# Altium integrated library SignalCommunications.IntLib: 804 symbols (part 2 of 10)
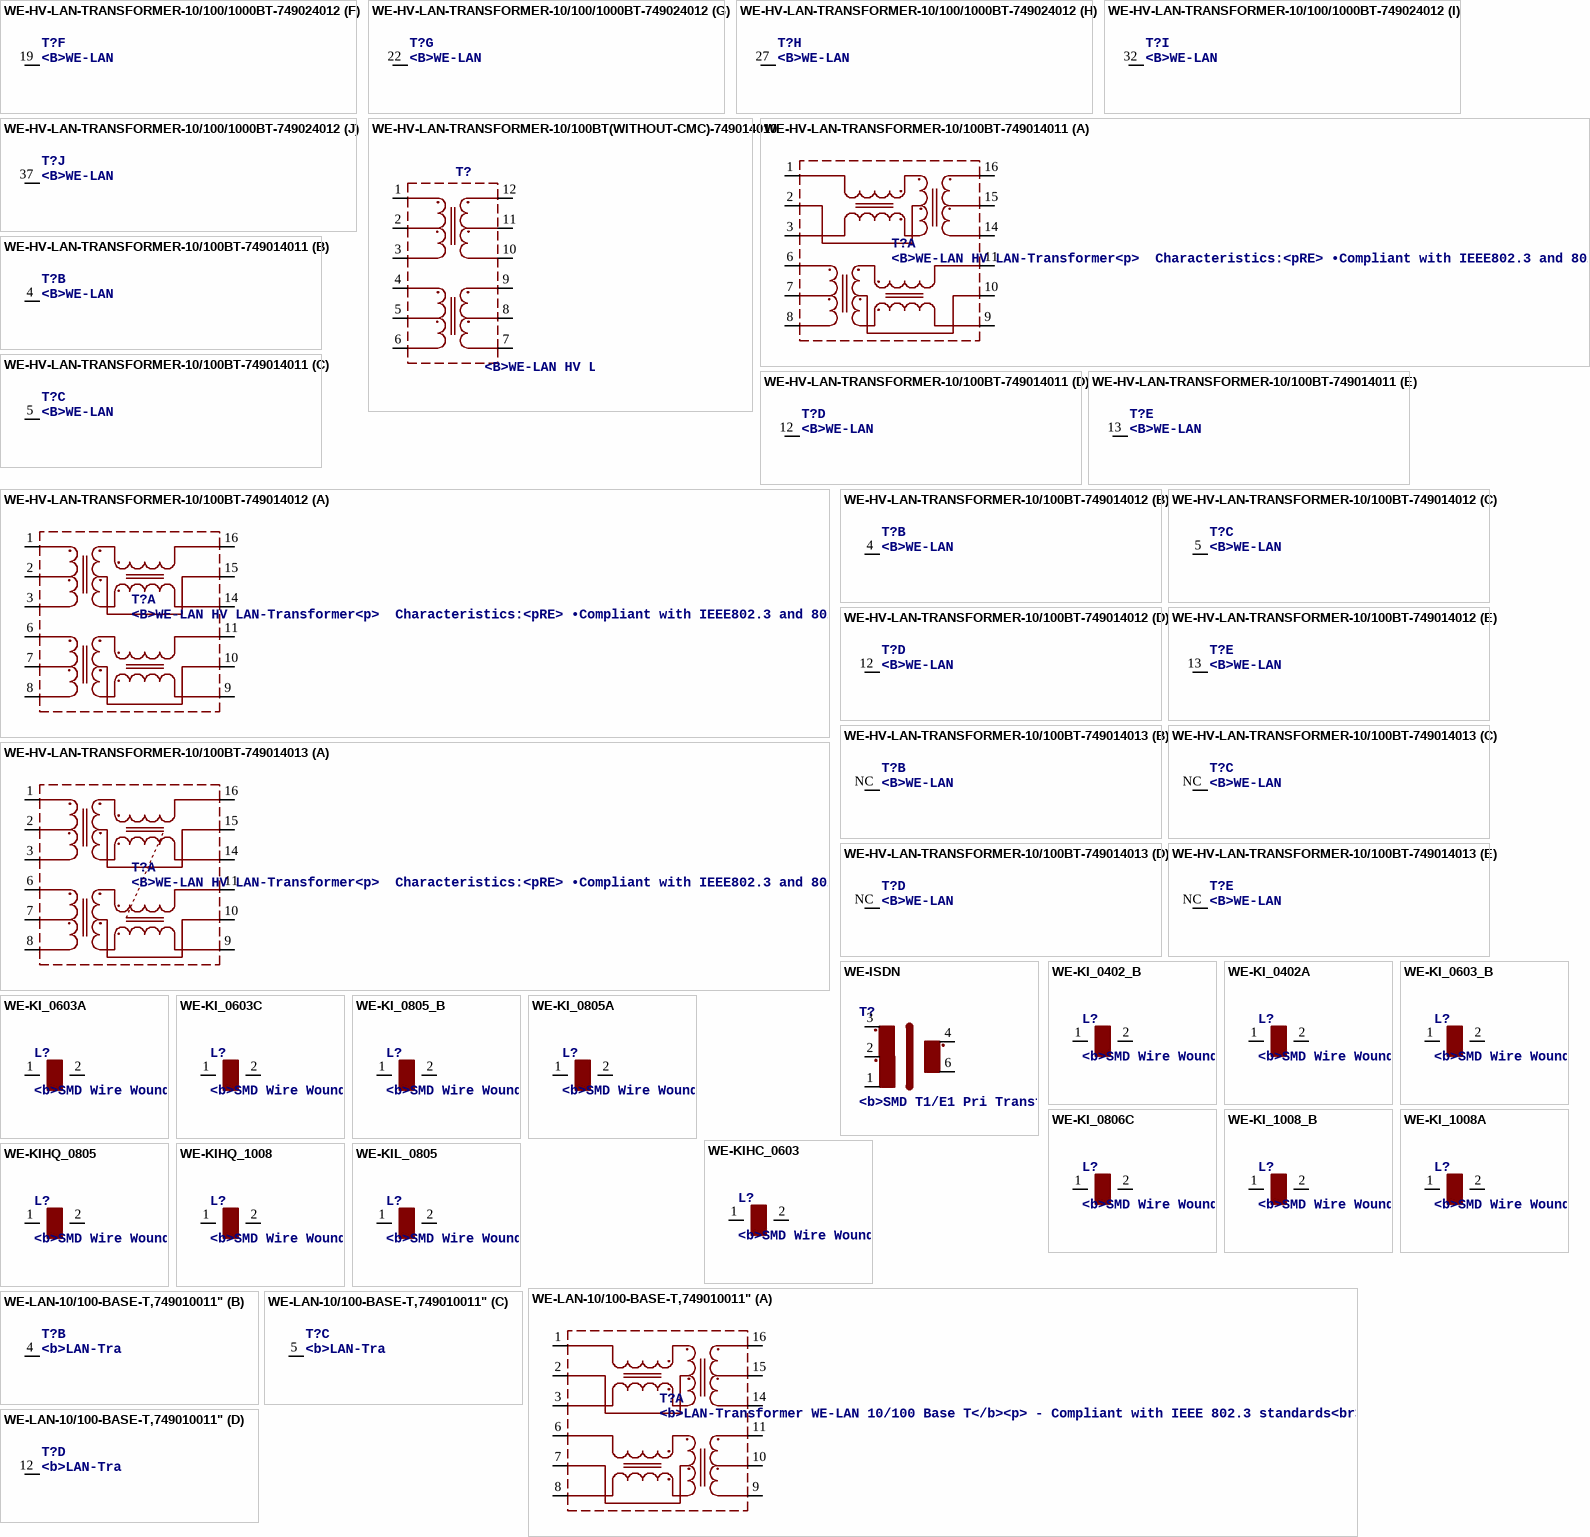
[diagram p43: symbols WE-HV-LAN-TRANSFORMER-10/100/1000BT-749024012 to WE-LAN-10/100-BASE-T,749010011"]

## WE-HV-LAN-TRANSFORMER-10/100/1000BT-749024012
designator T?, comment <B>WE-LAN HV LAN-Transformer<p> / Characteristics:<pRE> / •Compliant with IEEE802.3 and 802.3af standards / •Operating temperature: 0 °C to +70 °C / •SMD / •4 kV Hipot test<PRE> / <B>Applications:<PRE> / •Ethernet / •Compliant with most IC's for Ethernet applications / like Intel, AMD, Conexant, Realtek, etc. / •Hub, Router, Switches, medical applications
MANUFACTURER: Würth Elektronik eiSos GmbH; CREATED-BY: Christin Zierenner; COMPANY-URL: http://www.we-online.de; CREATED-DATE: July 2012; DATASHEET-URL: http://katalog.we-online.de/kataloge/eisos/media/pdf/749024012.pdf
footprint 749024012
part A pins: 1 D+, 2 TD, 3 D-, 6 D1+, 7 TD1, 8 D1-, 33 X1-, 34 TX1, 35 X1+, 38 X-, 39 TX, 40 X+
part B pins: 11 D+, 12 TD, 13 D-, 16 D1+, 17 TD1, 18 D1-, 23 X1-, 24 TX1, 25 X1+, 28 X-, 29 TX, 30 X+
part C pins: 4 NC
part D pins: 9 NC
part E pins: 14 NC
part F pins: 19 NC
part G pins: 22 NC
part H pins: 27 NC
part I pins: 32 NC
part J pins: 37 NC

## WE-HV-LAN-TRANSFORMER-10/100BT(WITHOUT-CMC)-749014010
designator T?, comment <B>WE-LAN HV LAN-Transformer<p> / Characteristics:<pRE> / •Compliant with IEEE802.3 and 802.3af standards / •Operating temperature: 0 °C to +70 °C / •SMD / •4 kV Hipot test<PRE> / <B>Applications:<PRE> / •Ethernet / •Compliant with most IC's for Ethernet applications / like Intel, AMD, Conexant, Realtek, etc. / •Hub, Router, Switches, medical applications
MANUFACTURER: Würth Elektronik eiSos GmbH; CREATED-BY: Christin Zierenner; COMPANY-URL: http://www.we-online.de; CREATED-DATE: July 2012; DATASHEET-URL: http://katalog.we-online.de/kataloge/eisos/media/pdf/749014010.pdf
footprint 749014010
pins: 1 D+, 2 TD, 3 D-, 4 D1+, 5 TD1, 6 D1-, 7 X1-, 8 TX1, 9 X1+, 10 X-, 11 TX, 12 X+

## WE-HV-LAN-TRANSFORMER-10/100BT-749014011
designator T?, comment <B>WE-LAN HV LAN-Transformer<p> / Characteristics:<pRE> / •Compliant with IEEE802.3 and 802.3af standards / •Operating temperature: 0 °C to +70 °C / •SMD / •4 kV Hipot test<PRE> / <B>Applications:<PRE> / •Ethernet / •Compliant with most IC's for Ethernet applications / like Intel, AMD, Conexant, Realtek, etc. / •Hub, Router, Switches, medical applications
MANUFACTURER: Würth Elektronik eiSos GmbH; CREATED-BY: Christin Zierenner; COMPANY-URL: http://www.we-online.de; CREATED-DATE: July 2012; DATASHEET-URL: http://katalog.we-online.de/kataloge/eisos/media/pdf/749014011.pdf
footprint 74901401X
part A pins: 1 RD+, 2 CRD, 3 RD-, 6 TD+, 7 CTD, 8 TD-, 9 TX-, 10 CTX, 11 TX+, 14 RX-, 15 CRX, 16 RX+
part B pins: 4 NC
part C pins: 5 NC
part D pins: 12 NC
part E pins: 13 NC

## WE-HV-LAN-TRANSFORMER-10/100BT-749014012
designator T?, comment <B>WE-LAN HV LAN-Transformer<p> / Characteristics:<pRE> / •Compliant with IEEE802.3 and 802.3af standards / •Operating temperature: 0 °C to +70 °C / •SMD / •6 kV Hipot test<PRE> / <B>Applications:<PRE> / •Ethernet / •Compliant with most IC's for Ethernet applications / like Intel, AMD, Conexant, Realtek, etc. / •Hub, Router, Switches, medical applications
MANUFACTURER: Würth Elektronik eiSos GmbH; CREATED-BY: Christin Zierenner; COMPANY-URL: http://www.we-online.de; CREATED-DATE: July 2012; DATASHEET-URL: http://katalog.we-online.de/kataloge/eisos/media/pdf/749014012.pdf
footprint 74901401X
part A pins: 1 RD+, 2 CRD, 3 RD-, 6 TD+, 7 CTD, 8 TD-, 9 TX-, 10 CTX, 11 TX+, 14 RX-, 15 CRX, 16 RX+
part B pins: 4 NC
part C pins: 5 NC
part D pins: 12 NC
part E pins: 13 NC

## WE-HV-LAN-TRANSFORMER-10/100BT-749014013
designator T?, comment <B>WE-LAN HV LAN-Transformer<p> / Characteristics:<pRE> / •Compliant with IEEE802.3 and 802.3af standards / •Operating temperature: 0 °C to +70 °C / •SMD / •4 kV Hipot test<PRE> / <B>Applications:<PRE> / •Ethernet / •Compliant with most IC's for Ethernet applications / like Intel, AMD, Conexant, Realtek, etc. / •Hub, Router, Switches, medical applications
MANUFACTURER: Würth Elektronik eiSos GmbH; CREATED-BY: Christin Zierenner; COMPANY-URL: http://www.we-online.de; CREATED-DATE: July 2012; DATASHEET-URL: http://katalog.we-online.de/kataloge/eisos/media/pdf/749014013.pdf
footprint 74901401X
part A pins: 1 RD+, 2 CRD, 3 RD-, 6 TD+, 7 CTD, 8 TD-, 9 TX-, 10 CTX, 11 TX+, 14 RX-, 15 CRX, 16 RX+
part B pins: NC
part C pins: NC
part D pins: NC
part E pins: NC

## WE-ISDN
designator T?, comment <b>SMD T1/E1 Pri Transformer WE-ISDN</b><p> / - Small surface mount package<br> / - Separate transit and receive devices for layout flexibility<br> / - Low cross talk: excellent layout density<br> / - Meets ITU G. 703 ISDN-Primary rate recommendations<br> / - 1500 VAC dielectric strength<br> / - 100 Ohm line<br><br> / -- ISDN<br> / -- Matched to IC manufacturers transceivers
footprint WE-ISDN
pins: 1, 2, 3, 4, 6

## WE-KI_0402_B
designator L?, comment <b>SMD Wire Wound Ceramic Inductor WE-KI</b><br><br> / - Wire wound<br> / - High thermal stability<br> / - Rated current up to 1 A<br> / - High Q-factor<br> / - High SRF<br> / - Inductance tolerances: 5% (2% upon request)<br><br> / -- Especially developed for high frequency applications<br> / -- Perfect for applications in telecommunications<br> / -- Bluetooth<br> / -- Wireless LAN
footprint WE-KI_0402_B
pins: 1, 2

## WE-KI_0402A
designator L?, comment <b>SMD Wire Wound Ceramic Inductor WE-KI</b><br><br> / - Wire wound<br> / - High thermal stability<br> / - Rated current up to 1 A<br> / - High Q-factor<br> / - High SRF<br> / - Inductance tolerances: 5% (2% upon request)<br><br> / -- Especially developed for high frequency applications<br> / -- Perfect for applications in telecommunications<br> / -- Bluetooth<br> / -- Wireless LAN
footprint WE-KI_0402A
pins: 1, 2

## WE-KI_0603_B
designator L?, comment <b>SMD Wire Wound Ceramic Inductor WE-KI</b><br><br> / - Wire wound<br> / - High thermal stability<br> / - Rated current up to 1 A<br> / - High Q-factor<br> / - High SRF<br> / - Inductance tolerances: 5% (2% upon request)<br><br> / -- Especially developed for high frequency applications<br> / -- Perfect for applications in telecommunications<br> / -- Bluetooth<br> / -- Wireless LAN
footprint WE-KI_0603_B
pins: 1, 2

## WE-KI_0603A
designator L?, comment <b>SMD Wire Wound Ceramic Inductor WE-KI</b><br><br> / - Wire wound<br> / - High thermal stability<br> / - Rated current up to 1 A<br> / - High Q-factor<br> / - High SRF<br> / - Inductance tolerances: 5% (2% upon request)<br><br> / -- Especially developed for high frequency applications<br> / -- Perfect for applications in telecommunications<br> / -- Bluetooth<br> / -- Wireless LAN
footprint WE-KI_0603A
pins: 1, 2

## WE-KI_0603C
designator L?, comment <b>SMD Wire Wound Ceramic Inductor WE-KI</b><br><br> / - Wire wound<br> / - High thermal stability<br> / - Rated current up to 1 A<br> / - High Q-factor<br> / - High SRF<br> / - Inductance tolerances: 5% (2% upon request)<br><br> / -- Especially developed for high frequency applications<br> / -- Perfect for applications in telecommunications<br> / -- Bluetooth<br> / -- Wireless LAN
footprint WE-KI_0603C
pins: 1, 2

## WE-KI_0805_B
designator L?, comment <b>SMD Wire Wound Ceramic Inductor WE-KI</b><br><br> / - Wire wound<br> / - High thermal stability<br> / - Rated current up to 1 A<br> / - High Q-factor<br> / - High SRF<br> / - Inductance tolerances: 5% (2% upon request)<br><br> / -- Especially developed for high frequency applications<br> / -- Perfect for applications in telecommunications<br> / -- Bluetooth<br> / -- Wireless LAN
footprint WE-KI_0805_B
pins: 1, 2

## WE-KI_0805A
designator L?, comment <b>SMD Wire Wound Ceramic Inductor WE-KI</b><br><br> / - Wire wound<br> / - High thermal stability<br> / - Rated current up to 1 A<br> / - High Q-factor<br> / - High SRF<br> / - Inductance tolerances: 5% (2% upon request)<br><br> / -- Especially developed for high frequency applications<br> / -- Perfect for applications in telecommunications<br> / -- Bluetooth<br> / -- Wireless LAN
footprint WE-KI_0805A
pins: 1, 2

## WE-KI_0806C
designator L?, comment <b>SMD Wire Wound Ceramic Inductor WE-KI</b><br><br> / - Wire wound<br> / - High thermal stability<br> / - Rated current up to 1 A<br> / - High Q-factor<br> / - High SRF<br> / - Inductance tolerances: 5% (2% upon request)<br><br> / -- Especially developed for high frequency applications<br> / -- Perfect for applications in telecommunications<br> / -- Bluetooth<br> / -- Wireless LAN
footprint WE-KI_0805C
pins: 1, 2

## WE-KI_1008_B
designator L?, comment <b>SMD Wire Wound Ceramic Inductor WE-KI</b><br><br> / - Wire wound<br> / - High thermal stability<br> / - Rated current up to 1 A<br> / - High Q-factor<br> / - High SRF<br> / - Inductance tolerances: 5% (2% upon request)<br><br> / -- Especially developed for high frequency applications<br> / -- Perfect for applications in telecommunications<br> / -- Bluetooth<br> / -- Wireless LAN
footprint WE-KI_1008_B
pins: 1, 2

## WE-KI_1008A
designator L?, comment <b>SMD Wire Wound Ceramic Inductor WE-KI</b><br><br> / - Wire wound<br> / - High thermal stability<br> / - Rated current up to 1 A<br> / - High Q-factor<br> / - High SRF<br> / - Inductance tolerances: 5% (2% upon request)<br><br> / -- Especially developed for high frequency applications<br> / -- Perfect for applications in telecommunications<br> / -- Bluetooth<br> / -- Wireless LAN
footprint WE-KI_1008A
pins: 1, 2

## WE-KIHC_0603
designator L?, comment <b>SMD Wire Wound Ceramic Inductor WE-KIHC</b><br><br> / - High current up to 2400 mA<br> / - Very high Q values<br> / - High thermal stability<br> / - Very high SRF - up to 12,5 GHz<br><br> / -- Bluetooth<br> / -- Wireless LAN<br> / -- RF oscillation circuit<br> / -- IF impedance matching<br> / -- PA chokes
footprint WE-KI_0603_B
pins: 1, 2

## WE-KIHQ_0805
designator L?, comment <b>SMD Wire Wound Ceramic Inductor WE-KIHQ</b><br><br> / - High current<br> / - Highest Quality factor in size 0805 - up to 98<br> / - High thermal stability<br> / - High SRF<br><br> / -- Bluetooth<br> / -- Wireless LAN<br> / -- RF oscillation circuit<br> / -- IF impedance matching<br> / -- IG choke
footprint WE-KI_0805_B
pins: 1, 2

## WE-KIHQ_1008
designator L?, comment <b>SMD Wire Wound Ceramic Inductor WE-KIHQ</b><br><br> / - High current<br> / - Highest Quality factor in size 0805 - up to 98<br> / - High thermal stability<br> / - High SRF<br><br> / -- Bluetooth<br> / -- Wireless LAN<br> / -- RF oscillation circuit<br> / -- IF impedance matching<br> / -- IG choke
footprint WE-KI_1008_B
pins: 1, 2

## WE-KIL_0805
designator L?, comment <b>SMD Wire Wound Ceramic Inductor WE-KIL</b><br><br> / - Low profile<br> / - High Q values<br><br> / -- Bluetooth <br> / -- Wireless LAN<br> / -- RF oscillation circuit<br> / -- IF impedance matching
footprint WE-KI_0805_B
pins: 1, 2

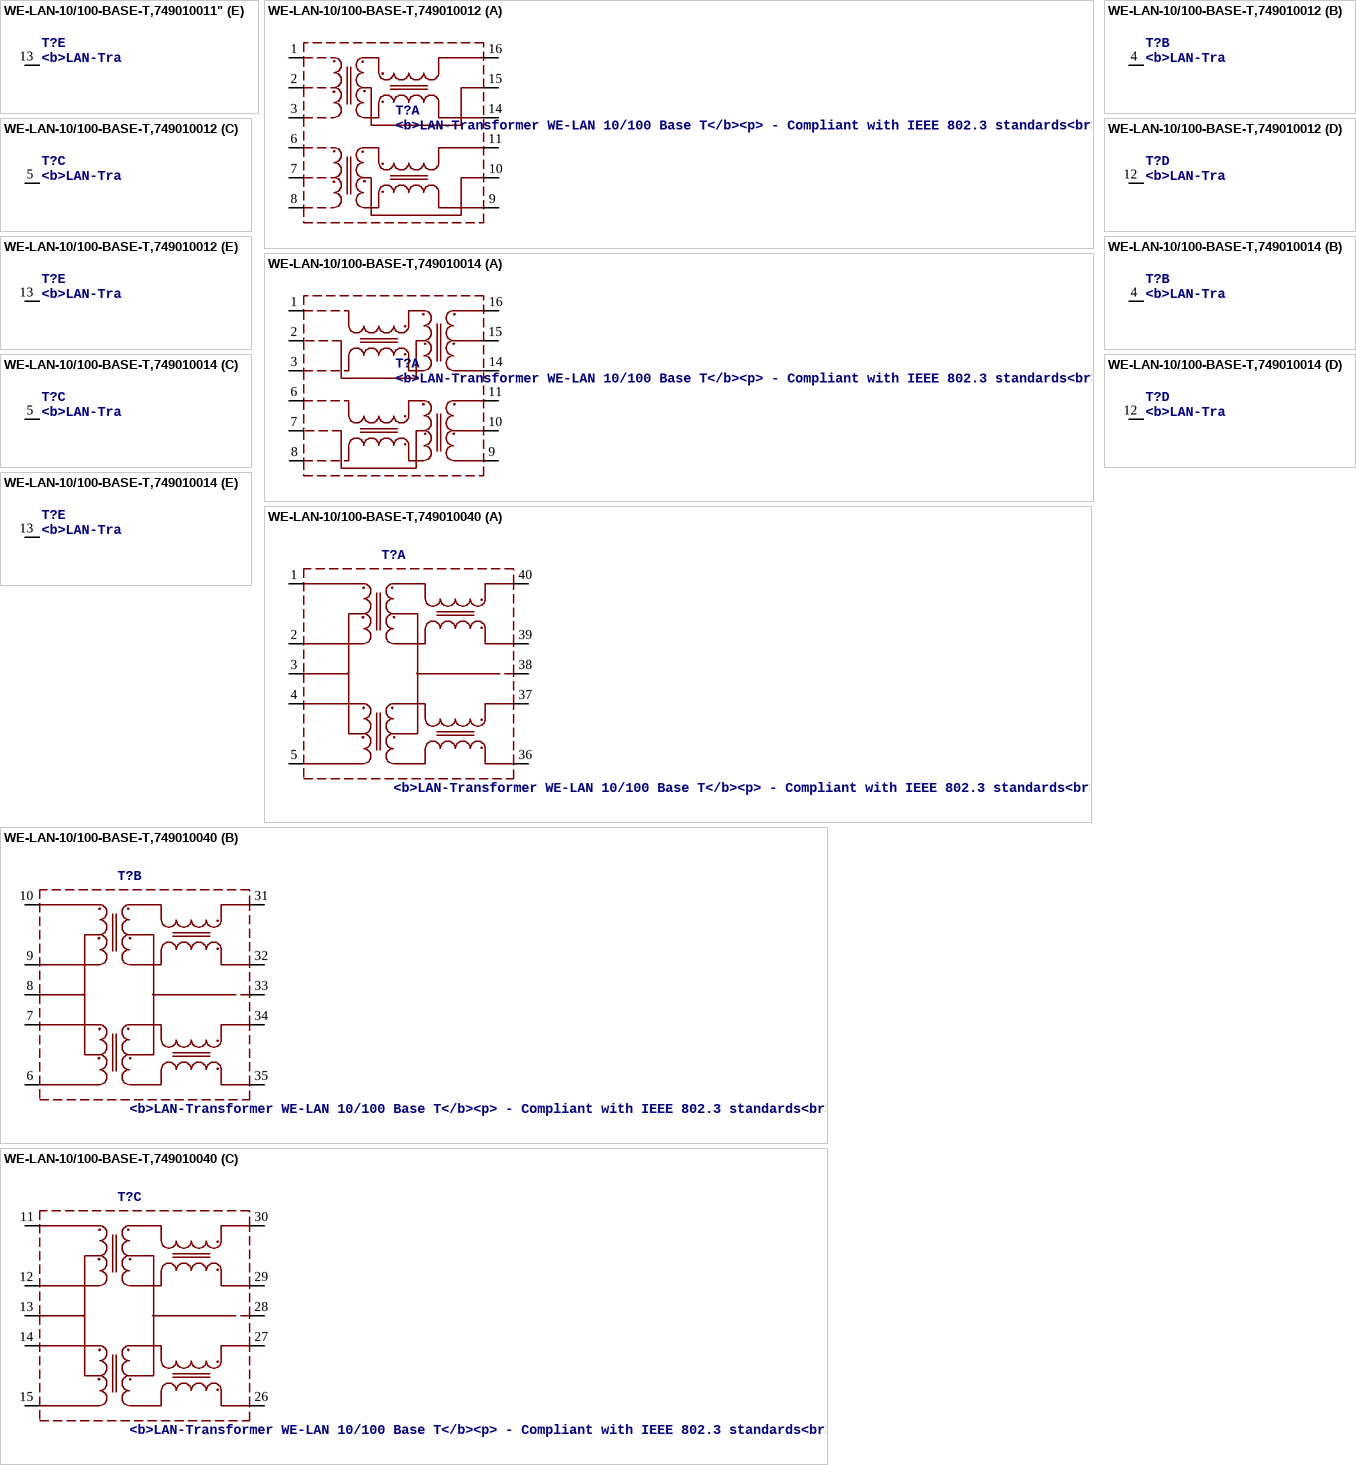
[diagram p4: symbols WE-LAN-10/100-BASE-T,749010011" to WE-LAN-10/100-BASE-T,749010040]

## WE-LAN-10/100-BASE-T,749010011"
designator T?, comment <b>LAN-Transformer WE-LAN 10/100 Base T</b><p> / - Compliant with IEEE 802.3 standards<br> / - SMD<p> / -- Ethernet<br> / -- Power over Ethernet<br> / -- 1 Gigabit Ethernet<br> / -- Compliant with most IC's for ethernet applications like Intel, AMD, Globespan and Realtek<br> / -- Hub, Router, Switch
MANUFACTURER: Würth Elektronik eiSos GmbH; CREATED-BY: Christin Zierenner; COMPANY-URL: http://www.we-online.de; CREATED-DATE: June 2012; DATASHEET-URL: http://katalog.we-online.de/kataloge/eisos/media/pdf/749010011.pdf
footprint 749010011
part A pins: 1 RD+, 2 RCT, 3 RD-, 6 TD+, 7 TCT, 8 TD-, 9 TX-, 10 TXCT, 11 TX+, 14 RX-, 15 RXCT, 16 RX+
part B pins: 4 NC
part C pins: 5 NC
part D pins: 12 NC
part E pins: 13 NC

## WE-LAN-10/100-BASE-T,749010012
designator T?, comment <b>LAN-Transformer WE-LAN 10/100 Base T</b><p> / - Compliant with IEEE 802.3 standards<br> / - SMD<p> / -- Ethernet<br> / -- Power over Ethernet<br> / -- 1 Gigabit Ethernet<br> / -- Compliant with most IC's for ethernet applications like Intel, AMD, Globespan and Realtek<br> / -- Hub, Router, Switch
MANUFACTURER: Würth Elektronik eiSos GmbH; CREATED-BY: Christin Zierenner; COMPANY-URL: http://www.we-online.de; CREATED-DATE: June 2012; DATASHEET-URL: http://katalog.we-online.de/kataloge/eisos/media/pdf/749010012.pdf
footprint 749010012
part A pins: 1 RD+, 2 RCT, 3 RD-, 6 TD+, 7 TCT, 8 TD-, 9 TX-, 10 TXCT, 11 TX+, 14 RX-, 15 RXCT, 16 RX+
part B pins: 4 NC
part C pins: 5 NC
part D pins: 12 NC
part E pins: 13 NC

## WE-LAN-10/100-BASE-T,749010014
designator T?, comment <b>LAN-Transformer WE-LAN 10/100 Base T</b><p> / - Compliant with IEEE 802.3 standards<br> / - SMD<p> / -- Ethernet<br> / -- Power over Ethernet<br> / -- 1 Gigabit Ethernet<br> / -- Compliant with most IC's for ethernet applications like Intel, AMD, Globespan and Realtek<br> / -- Hub, Router, Switch
MANUFACTURER: Würth Elektronik eiSos GmbH; CREATED-BY: Christin Zierenner; COMPANY-URL: http://www.we-online.de; CREATED-DATE: June 2012; DATASHEET-URL: http://katalog.we-online.de/kataloge/eisos/media/pdf/749010014.pdf
footprint 749010014
part A pins: 1 RX+, 2 CRX, 3 RX-, 6 TX+, 7 CTX, 8 TX-, 9 TD-, 10 CTD, 11 TD+, 14 RD-, 15 CRD, 16 RD+
part B pins: 4 NC
part C pins: 5 NC
part D pins: 12 NC
part E pins: 13 NC

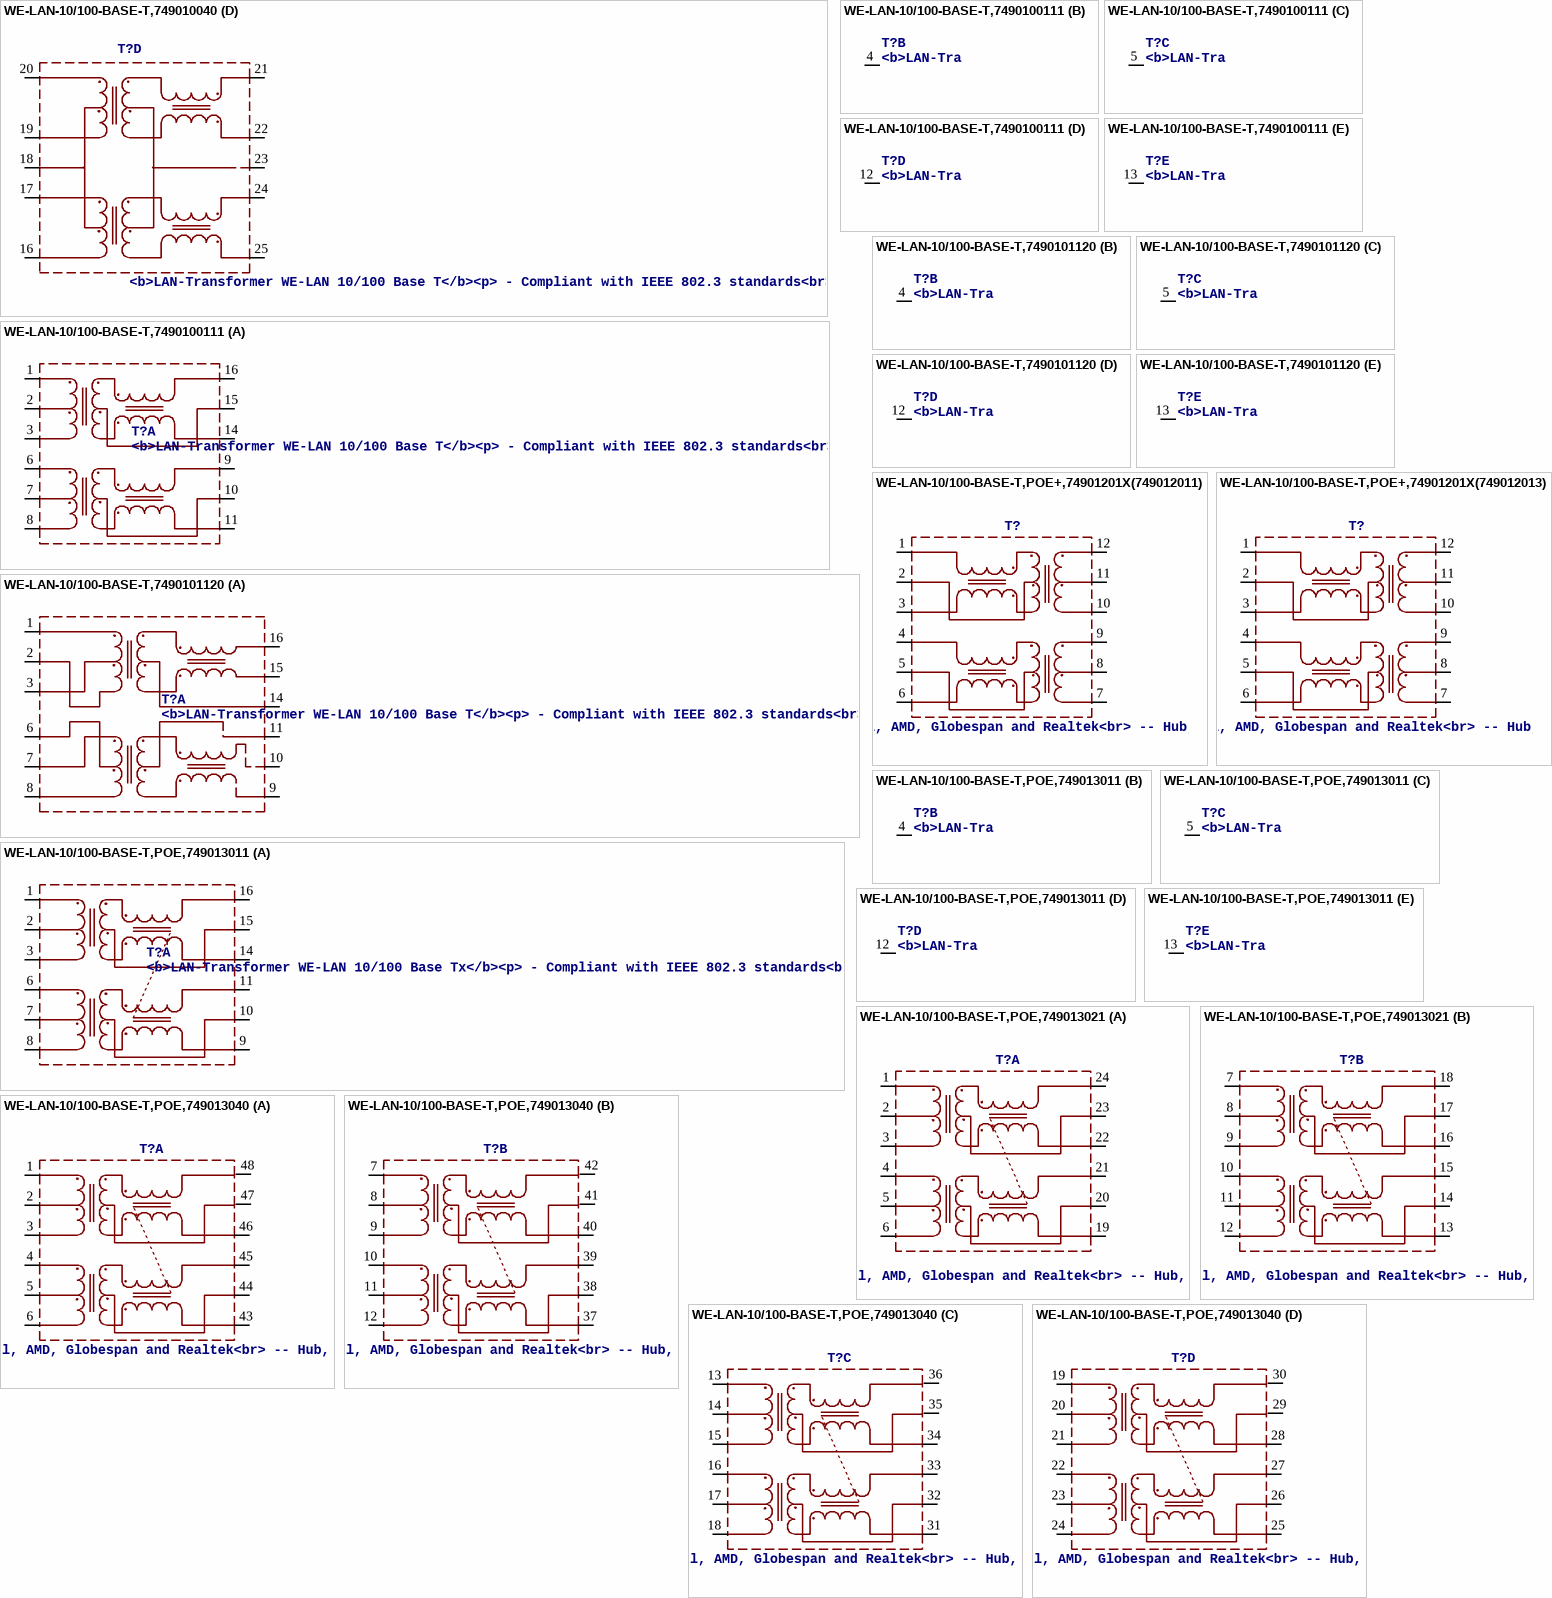
[diagram p5: symbols WE-LAN-10/100-BASE-T,749010040 to WE-LAN-10/100-BASE-T,POE,749013040]

## WE-LAN-10/100-BASE-T,749010040
designator T?, comment <b>LAN-Transformer WE-LAN 10/100 Base T</b><p> / - Compliant with IEEE 802.3 standards<br> / - SMD<p> / -- Ethernet<br> / -- Power over Ethernet<br> / -- 1 Gigabit Ethernet<br> / -- Compliant with most IC's for ethernet applications like Intel, AMD, Globespan and Realtek<br> / -- Hub, Router, Switch
MANUFACTURER: Würth Elektronik eiSos GmbH; CREATED-BY: Christin Zierenner; COMPANY-URL: http://www.we-online.de; CREATED-DATE: June 2012; DATASHEET-URL: http://katalog.we-online.de/kataloge/eisos/media/pdf/749010040.pdf
footprint 749010040
part A pins: 1 TD+, 2 TD-, 3 CTVDD, 4 RD+, 5 RD-, 36 RX-, 37 RX+, 38 CMGND, 39 TX-, 40 TX+
part B pins: 6 RD-, 7 RD+, 8 CTVDD, 9 TD-, 10 TD+, 31 TX+, 32 TX-, 33 CMGND, 34 RX+, 35 RX-
part C pins: 11 TD+, 12 TD-, 13 CTVDD, 14 RD+, 15 RD-, 26 RX-, 27 RX+, 28 CMGND, 29 TX-, 30 TX+
part D pins: 16 RD-, 17 RD+, 18 CTVDD, 19 TD-, 20 TD+, 21 TX+, 22 TX-, 23 CMGND, 24 RX+, 25 RX-

## WE-LAN-10/100-BASE-T,7490100111
designator T?, comment <b>LAN-Transformer WE-LAN 10/100 Base T</b><p> / - Compliant with IEEE 802.3 standards<br> / - SMD<p> / -- Ethernet<br> / -- Power over Ethernet<br> / -- 1 Gigabit Ethernet<br> / -- Compliant with most IC's for ethernet applications like Intel, AMD, Globespan and Realtek<br> / -- Hub, Router, Switch
MANUFACTURER: Würth Elektronik eiSos GmbH; CREATED-BY: Christin Zierenner; COMPANY-URL: http://www.we-online.de; CREATED-DATE: June 2012; DATASHEET-URL: http://katalog.we-online.de/kataloge/eisos/media/pdf/7490100111.pdf
footprint 7490100111
part A pins: 1 TD+, 2 CTD, 3 TD-, 6 RD+, 7 CRD, 8 RD-, 9 RX+, 10 CRX, 11 RX-, 14 TX-, 15 CTX, 16 TX+
part B pins: 4 NC
part C pins: 5 NC
part D pins: 12 NC
part E pins: 13 NC

## WE-LAN-10/100-BASE-T,7490101120
designator T?, comment <b>LAN-Transformer WE-LAN 10/100 Base T</b><p> / - Compliant with IEEE 802.3 standards<br> / - SMD<p> / -- Ethernet<br> / -- Power over Ethernet<br> / -- 1 Gigabit Ethernet<br> / -- Compliant with most IC's for ethernet applications like Intel, AMD, Globespan and Realtek<br> / -- Hub, Router, Switch
MANUFACTURER: Würth Elektronik eiSos GmbH; CREATED-BY: Christin Zierenner; COMPANY-URL: http://www.we-online.de; CREATED-DATE: June 2012; DATASHEET-URL: http://katalog.we-online.de/kataloge/eisos/media/pdf/7490101120.pdf
footprint 7490101120
part A pins: 1 RD+, 2 RD-, 3 CRD, 6 CTD, 7 TD+, 8 TD-, 9 TX-, 10 TX+, 11 CTX, 14 CRX, 15 RX-, 16 RX+
part B pins: 4 NC
part C pins: 5 NC
part D pins: 12 NC
part E pins: 13 NC

## WE-LAN-10/100-BASE-T,POE+,74901201X(749012011)
designator T?, comment <b>LAN-Transformer WE-LAN 10/100 Base Tx</b><p> / - Compliant with IEEE 802.3 standards<br> / - SMD<p> / -- Ethernet<br> / -- Power over Ethernet<br> / -- 1 Gigabit Ethernet<br> / -- Compliant with most IC's for ethernet applications like Intel, AMD, Globespan and Realtek<br> / -- Hub, Router, Switch
MANUFACTURER: Würth Elektronik eiSos GmbH; CREATED-BY: Christin Zierenner; COMPANY-URL: http://www.we-online.de; CREATED-DATE: June 2012; DATASHEET-URL: http://katalog.we-online.de/kataloge/eisos/media/pdf/749012011.pdf
footprint 74901201X
pins: 1 RD+, 2 CRD, 3 RD-, 4 TD+, 5 CTD, 6 TD-, 7 TX-, 8 CTX, 9 TX+, 10 RX-, 11 CRX, 12 RX+

## WE-LAN-10/100-BASE-T,POE+,74901201X(749012013)
designator T?, comment <b>LAN-Transformer WE-LAN 10/100 Base Tx</b><p> / - Compliant with IEEE 802.3 standards<br> / - SMD<p> / -- Ethernet<br> / -- Power over Ethernet<br> / -- 1 Gigabit Ethernet<br> / -- Compliant with most IC's for ethernet applications like Intel, AMD, Globespan and Realtek<br> / -- Hub, Router, Switch
MANUFACTURER: Würth Elektronik eiSos GmbH; CREATED-BY: Christin Zierenner; COMPANY-URL: http://www.we-online.de; CREATED-DATE: June 2012; DATASHEET-URL: http://katalog.we-online.de/kataloge/eisos/media/pdf/749012013.pdf
footprint 74901201X
pins: 1 RD+, 2 CRD, 3 RD-, 4 TD+, 5 CTD, 6 TD-, 7 TX-, 8 CTX, 9 TX+, 10 RX-, 11 CRX, 12 RX+

## WE-LAN-10/100-BASE-T,POE,749013011
designator T?, comment <b>LAN-Transformer WE-LAN 10/100 Base Tx</b><p> / - Compliant with IEEE 802.3 standards<br> / - SMD<p> / -- Ethernet<br> / -- Power over Ethernet<br> / -- 1 Gigabit Ethernet<br> / -- Compliant with most IC's for ethernet applications like Intel, AMD, Globespan and Realtek<br> / -- Hub, Router, Switch
MANUFACTURER: Würth Elektronik eiSos GmbH; CREATED-BY: Christin Zierenner; COMPANY-URL: http://www.we-online.de; CREATED-DATE: June 2012; DATASHEET-URL: http://katalog.we-online.de/kataloge/eisos/media/pdf/749013011.pdf
footprint 749013011
part A pins: 1 TD+, 2 CTD, 3 TD-, 6 RD+, 7 CRD, 8 RD-, 9 RX-, 10 CRX, 11 RX+, 14 TX-, 15 CTX, 16 TX+
part B pins: 4 NC
part C pins: 5 NC
part D pins: 12 NC
part E pins: 13 NC

## WE-LAN-10/100-BASE-T,POE,749013021
designator T?, comment <b>LAN-Transformer WE-LAN 10/100 Base Tx</b><p> / - Compliant with IEEE 802.3 standards<br> / - SMD<p> / -- Ethernet<br> / -- Power over Ethernet<br> / -- 1 Gigabit Ethernet<br> / -- Compliant with most IC's for ethernet applications like Intel, AMD, Globespan and Realtek<br> / -- Hub, Router, Switch
MANUFACTURER: Würth Elektronik eiSos GmbH; CREATED-BY: Christin Zierenner; COMPANY-URL: http://www.we-online.de; CREATED-DATE: June 2012; DATASHEET-URL: http://katalog.we-online.de/kataloge/eisos/media/pdf/749013021.pdf
footprint 749013021
part A pins: 1 RD1+, 2 RCT1, 3 RD1-, 4 TD1+, 5 TCT1, 6 TD1-, 19 TX1-, 20 TXCT1, 21 TX1+, 22 RX1-, 23 RXCT1, 24 RX1+
part B pins: 7 RD1+, 8 RCT1, 9 RD1-, 10 TD1+, 11 TCT1, 12 TD1-, 13 TX1-, 14 TXCT1, 15 TX1+, 16 RX1-, 17 RXCT1, 18 RX1+

## WE-LAN-10/100-BASE-T,POE,749013040
designator T?, comment <b>LAN-Transformer WE-LAN 10/100 Base Tx</b><p> / - Compliant with IEEE 802.3 standards<br> / - SMD<p> / -- Ethernet<br> / -- Power over Ethernet<br> / -- 1 Gigabit Ethernet<br> / -- Compliant with most IC's for ethernet applications like Intel, AMD, Globespan and Realtek<br> / -- Hub, Router, Switch
MANUFACTURER: Würth Elektronik eiSos GmbH; CREATED-BY: Christin Zierenner; COMPANY-URL: http://www.we-online.de; CREATED-DATE: June 2012; DATASHEET-URL: http://katalog.we-online.de/kataloge/eisos/media/pdf/749013040.pdf
footprint 749013040
part A pins: 1 RD1+, 2 RCT1, 3 RD1-, 4 TD1+, 5 TCT1, 6 TD1-, 43 TX1-, 44 CMT1, 45 TX1+, 46 RX1-, 47 CMR1, 48 RX1+
part B pins: 7 RD1+, 8 RCT1, 9 RD1-, 10 TD1+, 11 TCT1, 12 TD1-, 37 TX1-, 38 CMT1, 39 TX1+, 40 RX1-, 41 CMR1, 42 RX1+
part C pins: 13 RD1+, 14 RCT1, 15 RD1-, 16 TD1+, 17 TCT1, 18 TD1-, 31 TX1-, 32 CMT1, 33 TX1+, 34 RX1-, 35 CMR1, 36 RX1+
part D pins: 19 RD1+, 20 RCT1, 21 RD1-, 22 TD1+, 23 TCT1, 24 TD1-, 25 TX1-, 26 CMT1, 27 TX1+, 28 RX1-, 29 CMR1, 30 RX1+

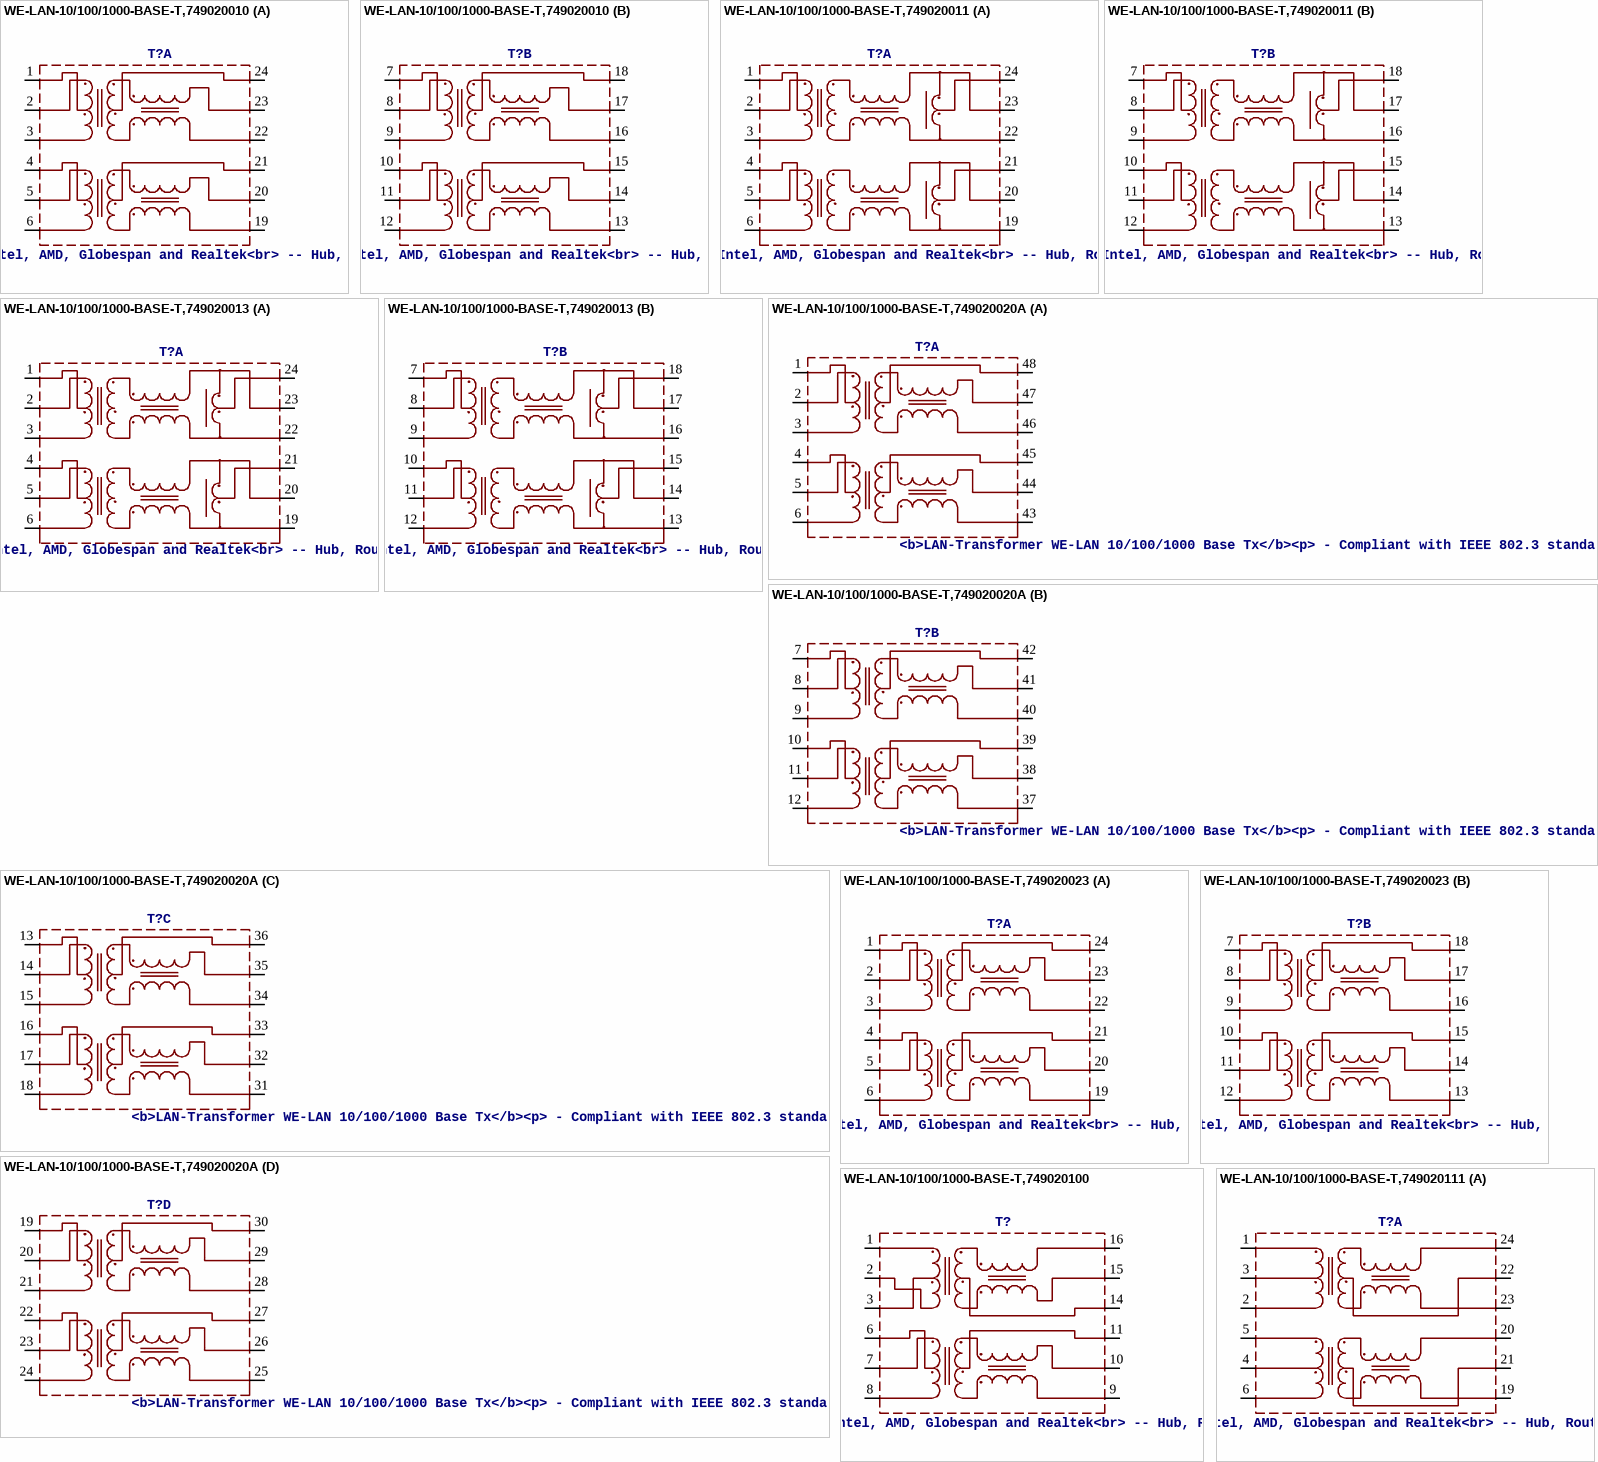
[diagram p6: symbols WE-LAN-10/100/1000-BASE-T,749020010 to WE-LAN-10/100/1000-BASE-T,749020111]

## WE-LAN-10/100/1000-BASE-T,749020010
designator T?, comment <b>LAN-Transformer WE-LAN 10/100/1000 Base Tx</b><p> / - Compliant with IEEE 802.3 standards<br> / - SMD<p> / -- Ethernet<br> / -- Power over Ethernet<br> / -- 1 Gigabit Ethernet<br> / -- Compliant with most IC's for ethernet applications like Intel, AMD, Globespan and Realtek<br> / -- Hub, Router, Switch
MANUFACTURER: Würth Elektronik eiSos GmbH; CREATED-BY: Christin Zierenner; COMPANY-URL: http://www.we-online.de; CREATED-DATE: June 2012; DATASHEET-URL: http://katalog.we-online.de/kataloge/eisos/media/pdf/749020010.pdf
footprint 749020010
part A pins: 1 TCT1, 2 TD1+, 3 TD1-, 4 TCT2, 5 TD2+, 6 TD2-, 19 MX2-, 20 MX2+, 21 MCT2, 22 MX1-, 23 MX1+, 24 MCT1
part B pins: 7 TCT1, 8 TD1+, 9 TD1-, 10 TCT2, 11 TD2+, 12 TD2-, 13 MX2-, 14 MX2+, 15 MCT2, 16 MX1-, 17 MX1+, 18 MCT1

## WE-LAN-10/100/1000-BASE-T,749020011
designator T?, comment <b>LAN-Transformer WE-LAN 10/100/1000 Base Tx</b><p> / - Compliant with IEEE 802.3 standards<br> / - SMD<p> / -- Ethernet<br> / -- Power over Ethernet<br> / -- 1 Gigabit Ethernet<br> / -- Compliant with most IC's for ethernet applications like Intel, AMD, Globespan and Realtek<br> / -- Hub, Router, Switch
MANUFACTURER: Würth Elektronik eiSos GmbH; CREATED-BY: Christin Zierenner; COMPANY-URL: http://www.we-online.de; CREATED-DATE: June 2012; DATASHEET-URL: http://katalog.we-online.de/kataloge/eisos/media/pdf/749020011.pdf
footprint 749020011
part A pins: 1 TCT1, 2 TD1+, 3 TD1-, 4 TCT2, 5 TD2+, 6 TD2-, 19 MX2-, 20 MX2+, 21 MCT2, 22 MX1-, 23 MX1+, 24 MCT1
part B pins: 7 TCT1, 8 TD1+, 9 TD1-, 10 TCT2, 11 TD2+, 12 TD2-, 13 MX2-, 14 MX2+, 15 MCT2, 16 MX1-, 17 MX1+, 18 MCT1

## WE-LAN-10/100/1000-BASE-T,749020013
designator T?, comment <b>LAN-Transformer WE-LAN 10/100/1000 Base Tx</b><p> / - Compliant with IEEE 802.3 standards<br> / - SMD<p> / -- Ethernet<br> / -- Power over Ethernet<br> / -- 1 Gigabit Ethernet<br> / -- Compliant with most IC's for ethernet applications like Intel, AMD, Globespan and Realtek<br> / -- Hub, Router, Switch
MANUFACTURER: Würth Elektronik eiSos GmbH; CREATED-BY: Christin Zierenner; COMPANY-URL: http://www.we-online.de; CREATED-DATE: June 2012; DATASHEET-URL: http://katalog.we-online.de/kataloge/eisos/media/pdf/749020013.pdf
footprint 749020013
part A pins: 1 TD1, 2 D1+, 3 D1-, 4 TD2, 5 D2+, 6 D2-, 19 X2-, 20 X2+, 21 TX2, 22 X1-, 23 X1+, 24 TX1
part B pins: 7 TD1, 8 D1+, 9 D1-, 10 TD2, 11 D2+, 12 D2-, 13 X2-, 14 X2+, 15 TX2, 16 X1-, 17 X1+, 18 TX1

## WE-LAN-10/100/1000-BASE-T,749020020A
designator T?, comment <b>LAN-Transformer WE-LAN 10/100/1000 Base Tx</b><p> / - Compliant with IEEE 802.3 standards<br> / - SMD<p> / -- Ethernet<br> / -- Power over Ethernet<br> / -- 1 Gigabit Ethernet<br> / -- Compliant with most IC's for ethernet applications like Intel, AMD, Globespan and Realtek<br> / -- Hub, Router, Switch
MANUFACTURER: Würth Elektronik eiSos GmbH; CREATED-BY: Christin Zierenner; COMPANY-URL: http://www.we-online.de; CREATED-DATE: June 2012; DATASHEET-URL: http://katalog.we-online.de/kataloge/eisos/media/pdf/749020020A.pdf
footprint 749020020A
part A pins: 1 TCT1, 2 TD1+, 3 TD1-, 4 TCT2, 5 TD2+, 6 TD2-, 43 MX2-, 44 MX2+, 45 MCT2, 46 MX1-, 47 MX1+, 48 MCT1
part B pins: 7 TCT1, 8 TD1+, 9 TD1-, 10 TCT2, 11 TD2+, 12 TD2-, 37 MX2-, 38 MX2+, 39 MCT2, 40 MX1-, 41 MX1+, 42 MCT1
part C pins: 13 TCT1, 14 TD1+, 15 TD1-, 16 TCT2, 17 TD2+, 18 TD2-, 31 MX2-, 32 MX2+, 33 MCT2, 34 MX1-, 35 MX1+, 36 MCT1
part D pins: 19 TCT1, 20 TD1+, 21 TD1-, 22 TCT2, 23 TD2+, 24 TD2-, 25 MX2-, 26 MX2+, 27 MCT2, 28 MX1-, 29 MX1+, 30 MCT1

## WE-LAN-10/100/1000-BASE-T,749020023
designator T?, comment <b>LAN-Transformer WE-LAN 10/100/1000 Base Tx</b><p> / - Compliant with IEEE 802.3 standards<br> / - SMD<p> / -- Ethernet<br> / -- Power over Ethernet<br> / -- 1 Gigabit Ethernet<br> / -- Compliant with most IC's for ethernet applications like Intel, AMD, Globespan and Realtek<br> / -- Hub, Router, Switch
MANUFACTURER: Würth Elektronik eiSos GmbH; CREATED-BY: Christin Zierenner; COMPANY-URL: http://www.we-online.de; CREATED-DATE: June 2012; DATASHEET-URL: http://katalog.we-online.de/kataloge/eisos/media/pdf/749020023.pdf
footprint 749020023
part A pins: 1 TCT1, 2 TD1+, 3 TD1-, 4 TCT2, 5 TD2+, 6 TD2-, 19 MX2-, 20 MX2+, 21 MCT2, 22 MX1-, 23 MX1+, 24 MCT1
part B pins: 7 TCT1, 8 TD1+, 9 TD1-, 10 TCT2, 11 TD2+, 12 TD2-, 13 MX2-, 14 MX2+, 15 MCT2, 16 MX1-, 17 MX1+, 18 MCT1

## WE-LAN-10/100/1000-BASE-T,749020100
designator T?, comment <b>LAN-Transformer WE-LAN 10/10/1000 Base Tx</b><p> / - Compliant with IEEE 802.3 standards<br> / - SMD<p> / -- Ethernet<br> / -- Power over Ethernet<br> / -- 1 Gigabit Ethernet<br> / -- Compliant with most IC's for ethernet applications like Intel, AMD, Globespan and Realtek<br> / -- Hub, Router, Switch
MANUFACTURER: Würth Elektronik eiSos GmbH; CREATED-BY: Christin Zierenner; COMPANY-URL: http://www.we-online.de; CREATED-DATE: June 2012; DATASHEET-URL: http://katalog.we-online.de/kataloge/eisos/media/pdf/749020100.pdf
footprint 749020100
pins: 1 D+, 2 D-, 3 TD1, 6 TD2, 7 D1+, 8 D1-, 9 X1-, 10 X1+, 11 TX1, 14 TX, 15 X-, 16 X+

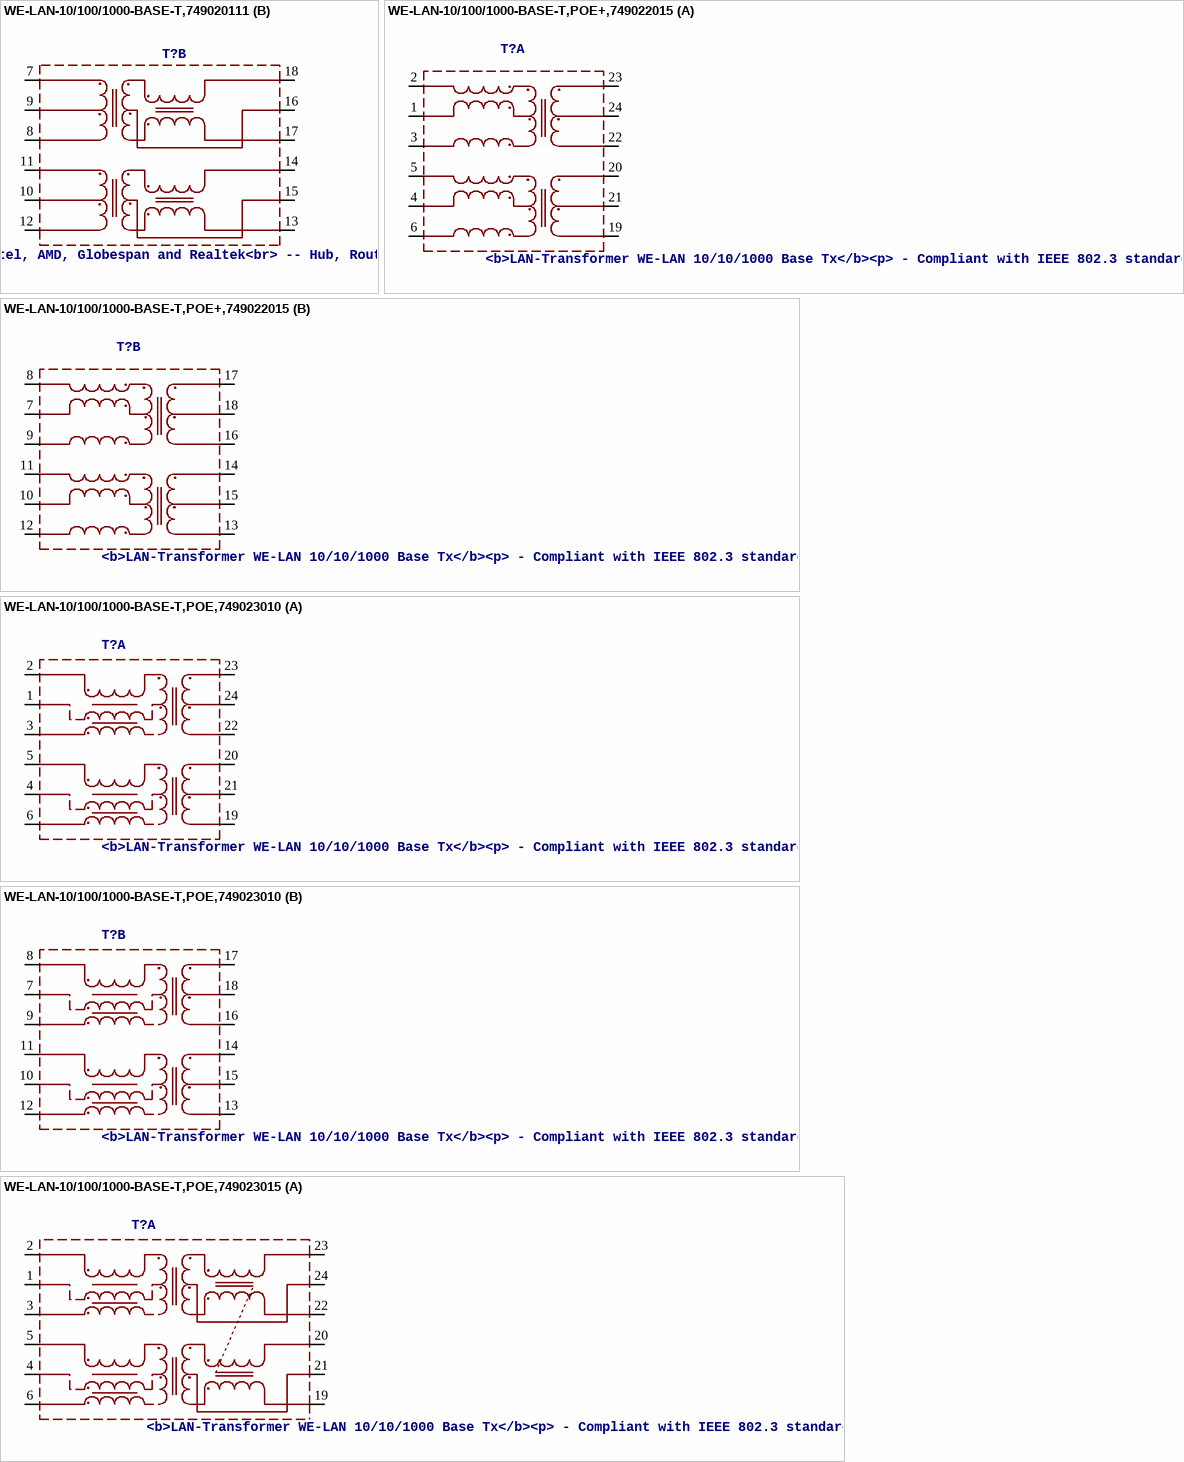
[diagram p7: symbols WE-LAN-10/100/1000-BASE-T,749020111 to WE-LAN-10/100/1000-BASE-T,POE,749023015]

## WE-LAN-10/100/1000-BASE-T,749020111
designator T?, comment <b>LAN-Transformer WE-LAN 10/10/1000 Base Tx</b><p> / - Compliant with IEEE 802.3 standards<br> / - SMD<p> / -- Ethernet<br> / -- Power over Ethernet<br> / -- 1 Gigabit Ethernet<br> / -- Compliant with most IC's for ethernet applications like Intel, AMD, Globespan and Realtek<br> / -- Hub, Router, Switch
MANUFACTURER: Würth Elektronik eiSos GmbH; CREATED-BY: Christin Zierenner; COMPANY-URL: http://www.we-online.de; CREATED-DATE: June 2012; DATASHEET-URL: http://katalog.we-online.de/kataloge/eisos/media/pdf/749020111.pdf
footprint 749020111
part A pins: 1 D1-, 2 D1A-, 3 TD1, 4 TD2, 5 D2-, 6 D2A-, 19 X2A-, 20 X2-, 21 TX2, 22 TX1, 23 X1A-, 24 X1-
part B pins: 7 D1-, 8 D1A-, 9 TD1, 10 TD2, 11 D2-, 12 D2A-, 13 X2A-, 14 X2-, 15 TX2, 16 TX1, 17 X1A-, 18 X1-

## WE-LAN-10/100/1000-BASE-T,POE+,749022015
designator T?, comment <b>LAN-Transformer WE-LAN 10/10/1000 Base Tx</b><p> / - Compliant with IEEE 802.3 standards<br> / - SMD<p> / -- Ethernet<br> / -- Power over Ethernet<br> / -- 1 Gigabit Ethernet<br> / -- Compliant with most IC's for ethernet applications like Intel, AMD, Globespan and Realtek<br> / -- Hub, Router, Switch
MANUFACTURER: Würth Elektronik eiSos GmbH; CREATED-BY: Christin Zierenner; COMPANY-URL: http://www.we-online.de; CREATED-DATE: June 2012; DATASHEET-URL: http://katalog.we-online.de/kataloge/eisos/media/pdf/749022015.pdf
footprint 749022015
part A pins: 1 TD1, 2 D1-, 3 D1A-, 4 TD2, 5 D2-, 6 D2A-, 19 X2A-, 20 X2-, 21 TX2, 22 X1A-, 23 X1-, 24 TX1
part B pins: 7 TD1, 8 D1-, 9 D1A-, 10 TD2, 11 D2-, 12 D2A-, 13 X2A-, 14 X2-, 15 TX2, 16 X1A-, 17 X1-, 18 TX1

## WE-LAN-10/100/1000-BASE-T,POE,749023010
designator T?, comment <b>LAN-Transformer WE-LAN 10/10/1000 Base Tx</b><p> / - Compliant with IEEE 802.3 standards<br> / - SMD<p> / -- Ethernet<br> / -- Power over Ethernet<br> / -- 1 Gigabit Ethernet<br> / -- Compliant with most IC's for ethernet applications like Intel, AMD, Globespan and Realtek<br> / -- Hub, Router, Switch
MANUFACTURER: Würth Elektronik eiSos GmbH; CREATED-BY: Christin Zierenner; COMPANY-URL: http://www.we-online.de; CREATED-DATE: June 2012; DATASHEET-URL: http://katalog.we-online.de/kataloge/eisos/media/pdf/749023010.pdf
footprint 749023010
part A pins: 1 TCT1, 2 TD1+, 3 TD1-, 4 TCT2, 5 TD2+, 6 TD2-, 19 MX2-, 20 MX2+, 21 MCT2, 22 MX1-, 23 MX1+, 24 MCT1
part B pins: 7 TCT1, 8 TD1+, 9 TD1-, 10 TCT2, 11 TD2+, 12 TD2-, 13 MX2-, 14 MX2+, 15 MCT2, 16 MX1-, 17 MX1+, 18 MCT1

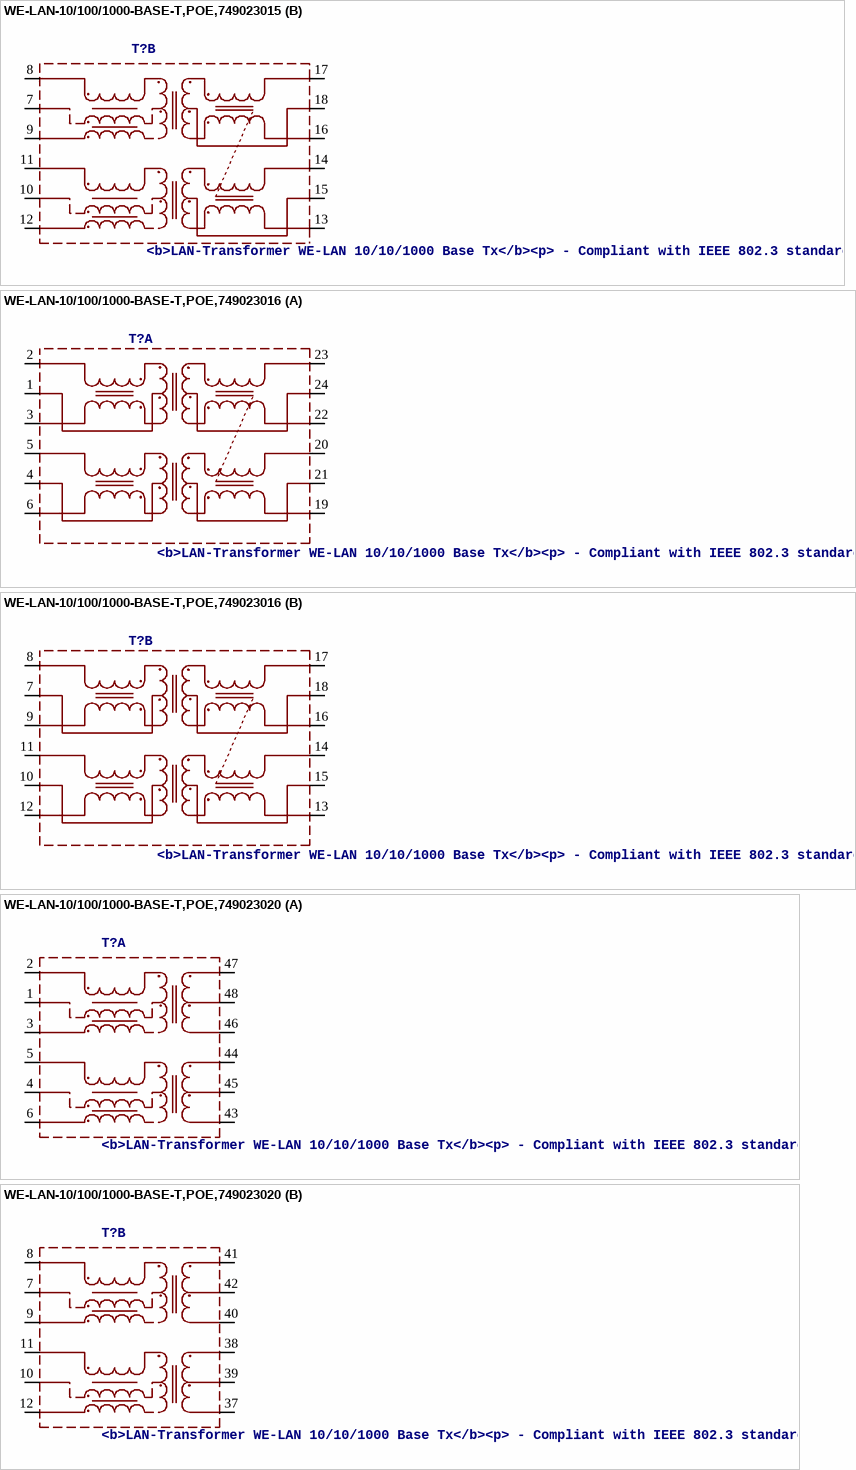
[diagram p8: symbols WE-LAN-10/100/1000-BASE-T,POE,749023015 to WE-LAN-10/100/1000-BASE-T,POE,749023020]

## WE-LAN-10/100/1000-BASE-T,POE,749023015
designator T?, comment <b>LAN-Transformer WE-LAN 10/10/1000 Base Tx</b><p> / - Compliant with IEEE 802.3 standards<br> / - SMD<p> / -- Ethernet<br> / -- Power over Ethernet<br> / -- 1 Gigabit Ethernet<br> / -- Compliant with most IC's for ethernet applications like Intel, AMD, Globespan and Realtek<br> / -- Hub, Router, Switch
MANUFACTURER: Würth Elektronik eiSos GmbH; CREATED-BY: Christin Zierenner; COMPANY-URL: http://www.we-online.de; CREATED-DATE: June 2012; DATASHEET-URL: http://katalog.we-online.de/kataloge/eisos/media/pdf/749023015.pdf
footprint 749023015
part A pins: 1 TD1, 2 D1+, 3 D1-, 4 TD2, 5 D2+, 6 D2-, 19 X2-, 20 X2+, 21 TX2, 22 X1-, 23 X1+, 24 TX1
part B pins: 7 TD1, 8 D1+, 9 D1-, 10 TD2, 11 D2+, 12 D2-, 13 X2-, 14 X2+, 15 TX2, 16 X1-, 17 X1+, 18 TX1

## WE-LAN-10/100/1000-BASE-T,POE,749023016
designator T?, comment <b>LAN-Transformer WE-LAN 10/10/1000 Base Tx</b><p> / - Compliant with IEEE 802.3 standards<br> / - SMD<p> / -- Ethernet<br> / -- Power over Ethernet<br> / -- 1 Gigabit Ethernet<br> / -- Compliant with most IC's for ethernet applications like Intel, AMD, Globespan and Realtek<br> / -- Hub, Router, Switch
MANUFACTURER: Würth Elektronik eiSos GmbH; CREATED-BY: Christin Zierenner; COMPANY-URL: http://www.we-online.de; CREATED-DATE: June 2012; DATASHEET-URL: http://katalog.we-online.de/kataloge/eisos/media/pdf/749023016.pdf
footprint 749023016
part A pins: 1 TD1, 2 D1+, 3 D1-, 4 TD2, 5 D2+, 6 D2-, 19 X2-, 20 X2+, 21 TX2, 22 X1-, 23 X1+, 24 TX1
part B pins: 7 TD1, 8 D1+, 9 D1-, 10 TD2, 11 D2+, 12 D2-, 13 X2-, 14 X2+, 15 TX2, 16 X1-, 17 X1+, 18 TX1

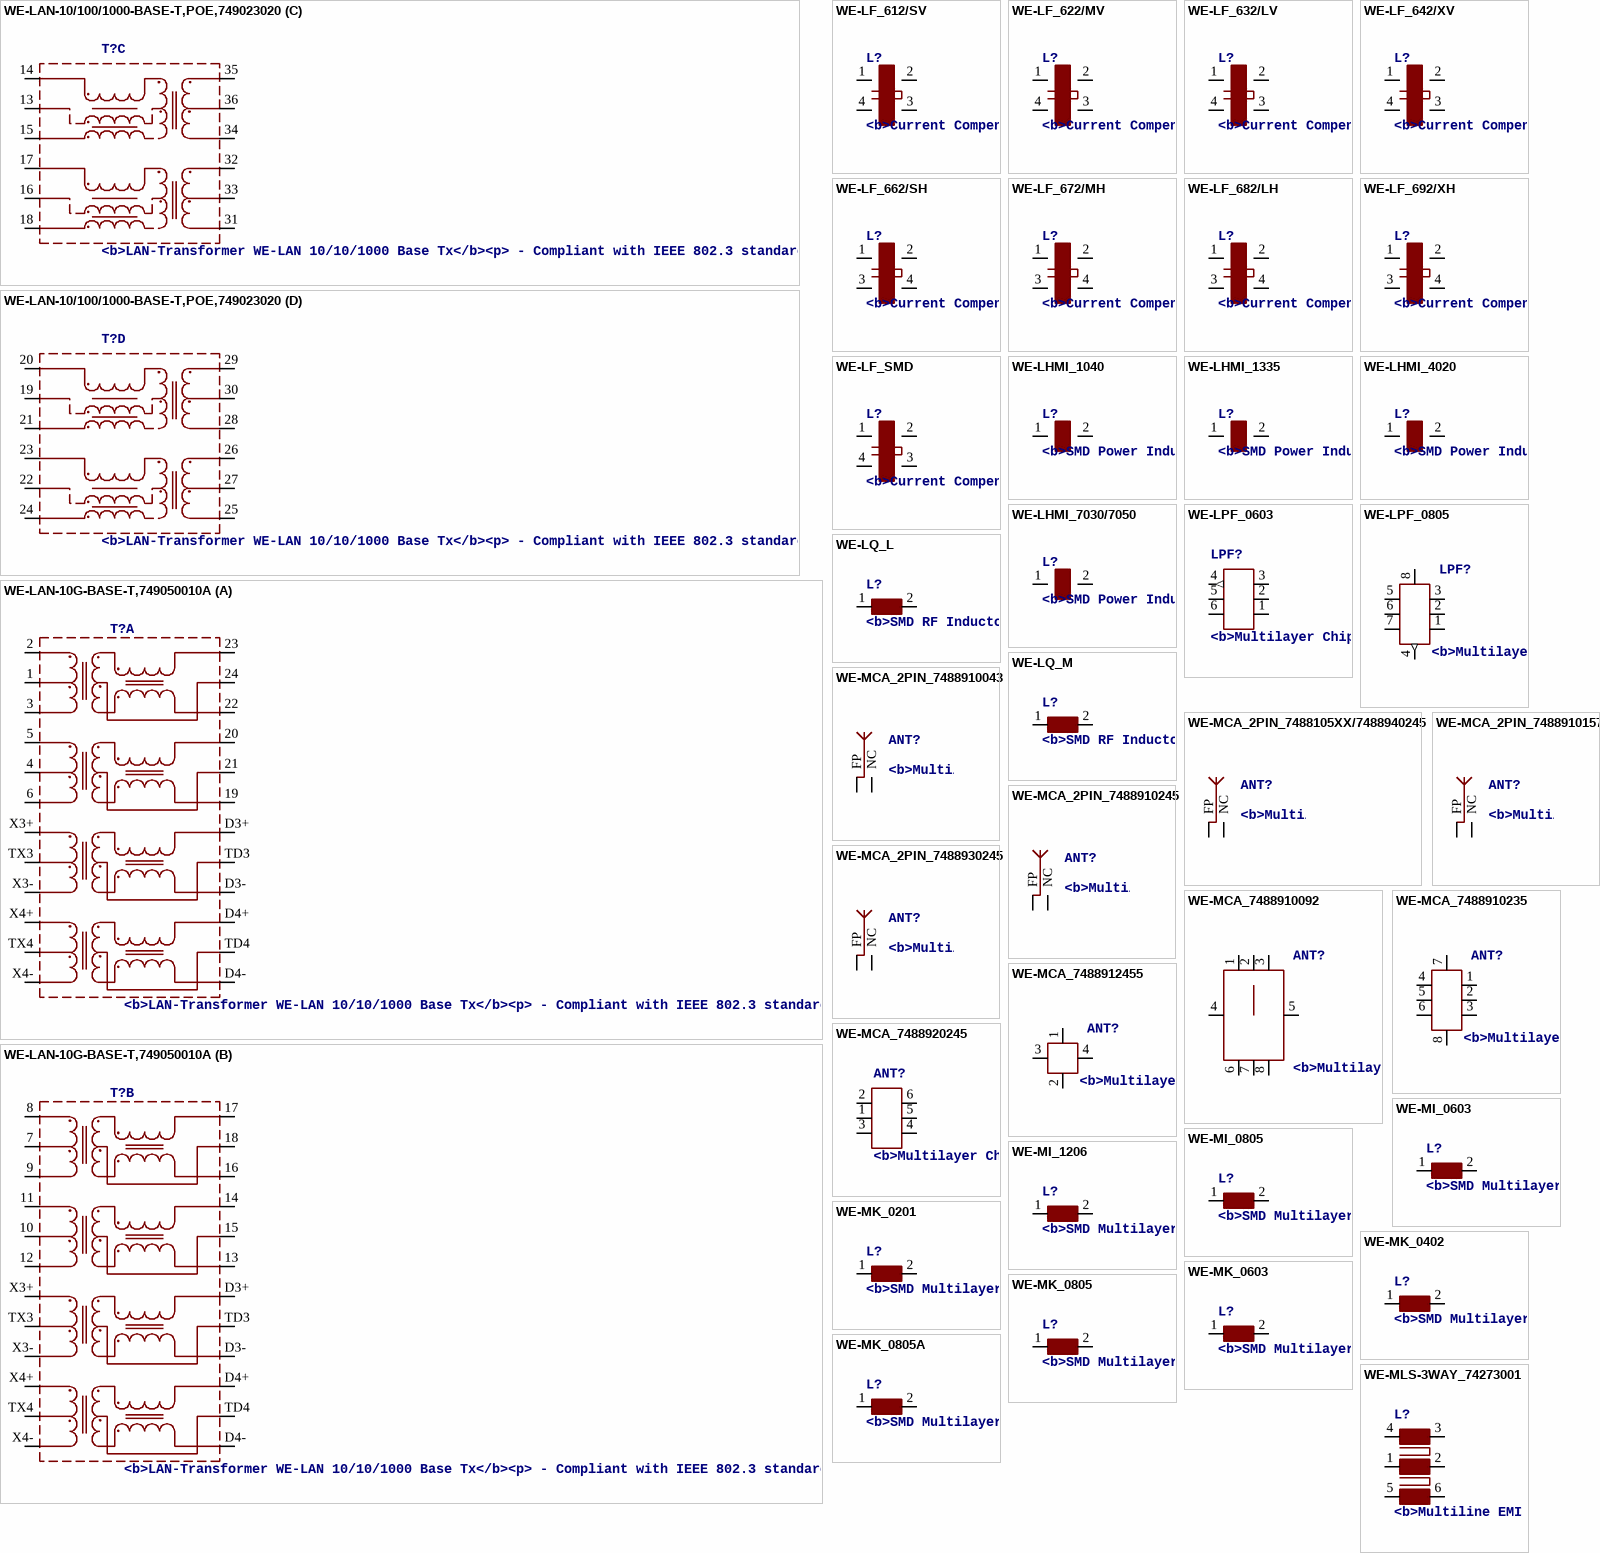
[diagram p9: symbols WE-LAN-10/100/1000-BASE-T,POE,749023020 to WE-MLS-3WAY_74273001]

## WE-LAN-10/100/1000-BASE-T,POE,749023020
designator T?, comment <b>LAN-Transformer WE-LAN 10/10/1000 Base Tx</b><p> / - Compliant with IEEE 802.3 standards<br> / - SMD<p> / -- Ethernet<br> / -- Power over Ethernet<br> / -- 1 Gigabit Ethernet<br> / -- Compliant with most IC's for ethernet applications like Intel, AMD, Globespan and Realtek<br> / -- Hub, Router, Switch
MANUFACTURER: Würth Elektronik eiSos GmbH; CREATED-BY: Christin Zierenner; COMPANY-URL: http://www.we-online.de; CREATED-DATE: June 2012; DATASHEET-URL: http://katalog.we-online.de/kataloge/eisos/media/pdf/749023020.pdf
footprint 749023020
part A pins: 1 TCT1, 2 TD1+, 3 TD1-, 4 TCT2, 5 TD2+, 6 TD2-, 43 MX2-, 44 MX2+, 45 MCT2, 46 MX1-, 47 MX1+, 48 MCT1
part B pins: 7 TCT1, 8 TD1+, 9 TD1-, 10 TCT2, 11 TD2+, 12 TD2-, 37 MX2-, 38 MX2+, 39 MCT2, 40 MX1-, 41 MX1+, 42 MCT1
part C pins: 13 TCT1, 14 TD1+, 15 TD1-, 16 TCT2, 17 TD2+, 18 TD2-, 31 MX2-, 32 MX2+, 33 MCT2, 34 MX1-, 35 MX1+, 36 MCT1
part D pins: 19 TCT1, 20 TD1+, 21 TD1-, 22 TCT2, 23 TD2+, 24 TD2-, 25 MX2-, 26 MX2+, 27 MCT2, 28 MX1-, 29 MX1+, 30 MCT1

## WE-LAN-10G-BASE-T,749050010A
designator T?, comment <b>LAN-Transformer WE-LAN 10/10/1000 Base Tx</b><p> / - Compliant with IEEE 802.3 standards<br> / - SMD<p> / -- Ethernet<br> / -- Power over Ethernet<br> / -- 10 Gigabit Ethernet<br> / -- Compliant with most IC's for ethernet applications like Intel, AMD, Globespan and Realtek<br> / -- Hub, Router, Switch
MANUFACTURER: Würth Elektronik eiSos GmbH; CREATED-BY: Christin Zierenner; COMPANY-URL: http://www.we-online.de; CREATED-DATE: June 2012; DATASHEET-URL: http://katalog.we-online.de/kataloge/eisos/media/pdf/749050010A.pdf
footprint 749050010A
part A pins: 1 TX1, 2 X1+, 3 X1-, 4 TX2, 5 X2+, 6 X2-, 19 D2-, 20 D2+, 21 TD2, 22 D1-, 23 D1+, 24 TD1, D3+, D3-, D4+, D4-, TD3, TD4, TX3, TX4, X3+, X3-, X4+, X4-
part B pins: 7 TX1, 8 X1+, 9 X1-, 10 TX2, 11 X2+, 12 X2-, 13 D2-, 14 D2+, 15 TD2, 16 D1-, 17 D1+, 18 TD1, D3+, D3-, D4+, D4-, TD3, TD4, TX3, TX4, X3+, X3-, X4+, X4-

## WE-LF_612/SV
designator L?, comment <b>Current Compensated Chokes WE-LF</b><p> / Is perfectly suitable for line filter circuits<br> / - Broadband screening because of the top-quality core / material even with the small size<br> / - Ring core choke with segment coiling<br> / - High interferences suppressions for common mode / interferences in low and middle frequency ranges<br> / - Low leakage field <br><br> / -- Line chokes for common mode filtering and protection<br> / -- BUS-systems (USB/CAN), telecommunications<br> / -- Filter for measurement signals<br>
footprint WE-LF_612/SV
pins: 1 3, 2 4, 3 2, 4 1

## WE-LF_622/MV
designator L?, comment <b>Current Compensated Chokes WE-LF</b><p> / Is perfectly suitable for line filter circuits<br> / - Broadband screening because of the top-quality core / material even with the small size<br> / - Ring core choke with segment coiling<br> / - High interferences suppressions for common mode / interferences in low and middle frequency ranges<br> / - Low leakage field <br><br> / -- Line chokes for common mode filtering and protection<br> / -- BUS-systems (USB/CAN), telecommunications<br> / -- Filter for measurement signals<br>
footprint WE-LF_622/MV
pins: 1 3, 2 4, 3 2, 4 1

## WE-LF_632/LV
designator L?, comment <b>Current Compensated Chokes WE-LF</b><p> / Is perfectly suitable for line filter circuits<br> / - Broadband screening because of the top-quality core / material even with the small size<br> / - Ring core choke with segment coiling<br> / - High interferences suppressions for common mode / interferences in low and middle frequency ranges<br> / - Low leakage field <br><br> / -- Line chokes for common mode filtering and protection<br> / -- BUS-systems (USB/CAN), telecommunications<br> / -- Filter for measurement signals<br>
footprint WE-LF_632/LV
pins: 1 3, 2 4, 3 2, 4 1

## WE-LF_642/XV
designator L?, comment <b>Current Compensated Chokes WE-LF</b><p> / Is perfectly suitable for line filter circuits<br> / - Broadband screening because of the top-quality core / material even with the small size<br> / - Ring core choke with segment coiling<br> / - High interferences suppressions for common mode / interferences in low and middle frequency ranges<br> / - Low leakage field <br><br> / -- Line chokes for common mode filtering and protection<br> / -- BUS-systems (USB/CAN), telecommunications<br> / -- Filter for measurement signals<br>
footprint WE-LF_642/XV
pins: 1 3, 2 4, 3 2, 4 1

## WE-LF_662/SH
designator L?, comment <b>Current Compensated Chokes WE-LF</b><p> / Is perfectly suitable for line filter circuits<br> / - Broadband screening because of the top-quality core / material even with the small size<br> / - Ring core choke with segment coiling<br> / - High interferences suppressions for common mode / interferences in low and middle frequency ranges<br> / - Low leakage field <br><br> / -- Line chokes for common mode filtering and protection<br> / -- BUS-systems (USB/CAN), telecommunications<br> / -- Filter for measurement signals<br>
footprint WE-LF_662/SH
pins: 1 3, 2 4, 3 1, 4 2

## WE-LF_672/MH
designator L?, comment <b>Current Compensated Chokes WE-LF</b><p> / Is perfectly suitable for line filter circuits<br> / - Broadband screening because of the top-quality core / material even with the small size<br> / - Ring core choke with segment coiling<br> / - High interferences suppressions for common mode / interferences in low and middle frequency ranges<br> / - Low leakage field <br><br> / -- Line chokes for common mode filtering and protection<br> / -- BUS-systems (USB/CAN), telecommunications<br> / -- Filter for measurement signals<br>
footprint WE-LF_672/MH
pins: 1 3, 2 4, 3 1, 4 2

## WE-LF_682/LH
designator L?, comment <b>Current Compensated Chokes WE-LF</b><p> / Is perfectly suitable for line filter circuits<br> / - Broadband screening because of the top-quality core / material even with the small size<br> / - Ring core choke with segment coiling<br> / - High interferences suppressions for common mode / interferences in low and middle frequency ranges<br> / - Low leakage field <br><br> / -- Line chokes for common mode filtering and protection<br> / -- BUS-systems (USB/CAN), telecommunications<br> / -- Filter for measurement signals<br>
footprint WE-LF_682/LH
pins: 1 3, 2 4, 3 1, 4 2

## WE-LF_692/XH
designator L?, comment <b>Current Compensated Chokes WE-LF</b><p> / Is perfectly suitable for line filter circuits<br> / - Broadband screening because of the top-quality core / material even with the small size<br> / - Ring core choke with segment coiling<br> / - High interferences suppressions for common mode / interferences in low and middle frequency ranges<br> / - Low leakage field <br><br> / -- Line chokes for common mode filtering and protection<br> / -- BUS-systems (USB/CAN), telecommunications<br> / -- Filter for measurement signals<br>
footprint WE-LF_692/XH
pins: 1 3, 2 4, 3 1, 4 2

## WE-LF_SMD
designator L?, comment <b>Current Compensated Chokes WE-LF SMD</b><p> / Is perfectly suitable for line filter circuits<br> / - Broadband screening because of the top-quality core / material even with the small size<br> / - Ring core choke with segment coiling<br> / - High interferences suppressions for common mode / interferences in low and middle frequency ranges<br> / - Low leakage field <br><br> / -- Line chokes for common mode filtering and protection<br> / -- BUS-systems (USB/CAN), telecommunications<br> / -- Filter for measurement signals<br>
footprint WE-LF_SMD
pins: 1 3, 2 4, 3 2, 4 1

## WE-LHMI_1040
designator L?, comment <b>SMD Power Inductor WE-LHMI</b><p> / - Compact design<br> / - Magnetically shielded<br> / - High current capability<br> / - Handles high transient current spikes<br> / - No acounstic noise and no leakage field<br> / - Frequency range up to 5MHz<br><br> / -- DC/DC converter for high current power supplies<br> / -- DC/DC converter for Field Programmable Gate Array (FPGA)<br> / -- POL converter<br> / -- Portable power like PDA, digital camera<br> / -- Mainboards / graphic cards<br> / -- Battery powerded devices
footprint WE-LHMI_1040
pins: 1, 2

## WE-LHMI_1335
designator L?, comment <b>SMD Power Inductor WE-LHMI</b><p> / - Compact design<br> / - Magnetically shielded<br> / - High current capability<br> / - Handles high transient current spikes<br> / - No acounstic noise and no leakage field<br> / - Frequency range up to 5MHz<br><br> / -- DC/DC converter for high current power supplies<br> / -- DC/DC converter for Field Programmable Gate Array (FPGA)<br> / -- POL converter<br> / -- Portable power like PDA, digital camera<br> / -- Mainboards / graphic cards<br> / -- Battery powerded devices
footprint WE-LHMI_1335
pins: 1, 2

## WE-LHMI_4020
designator L?, comment <b>SMD Power Inductor WE-LHMI</b><p> / - Compact design<br> / - Magnetically shielded<br> / - High current capability<br> / - Handles high transient current spikes<br> / - No acounstic noise and no leakage field<br> / - Frequency range up to 5MHz<br><br> / -- DC/DC converter for high current power supplies<br> / -- DC/DC converter for Field Programmable Gate Array (FPGA)<br> / -- POL converter<br> / -- Portable power like PDA, digital camera<br> / -- Mainboards / graphic cards<br> / -- Battery powerded devices
footprint WE-LHMI_4020
pins: 1, 2

## WE-LHMI_7030/7050
designator L?, comment <b>SMD Power Inductor WE-LHMI</b><p> / - Compact design<br> / - Magnetically shielded<br> / - High current capability<br> / - Handles high transient current spikes<br> / - No acounstic noise and no leakage field<br> / - Frequency range up to 5MHz<br><br> / -- DC/DC converter for high current power supplies<br> / -- DC/DC converter for Field Programmable Gate Array (FPGA)<br> / -- POL converter<br> / -- Portable power like PDA, digital camera<br> / -- Mainboards / graphic cards<br> / -- Battery powerded devices
footprint WE-LHMI_7030/7050
pins: 1, 2

## WE-LPF_0603
designator LPF?, comment <b>Multilayer Chip Low-Pass Filters WE-LPF SMD 0603</b><p> / - One inductor and three capacitors or two inductors and five capacitors in one component<br> / - Power capacity up to 3W<br> / - Low insertion loss and high attenuation in the stop-band<br><br> / -- RF-applications in the area of 0.8 to 6 GHz<br> / -- wireless communication systems like DECT,PACS,PHS,GSM, Bluetooth,...
footprint WE-LPF_0603
pins: 1 GND (power), 2 NC, 3 GND (power), 4 OUT (out), 5 GND (power), 6 IN

## WE-LPF_0805
designator LPF?, comment <b>Multilayer Chip Low-Pass Filters WE-LPF SMD 0603</b><p> / - One inductor and three capacitors or two inductors and five capacitors in one component<br> / - Power capacity up to 3W<br> / - Low insertion loss and high attenuation in the stop-band<br><br> / -- RF-applications in the area of 0.8 to 6 GHz<br> / -- wireless communication systems like DECT,PACS,PHS,GSM, Bluetooth,...
footprint WE-LPF_0805
pins: 1 GND (power), 2 NC, 3 GND (power), 4 OUT (out), 5 GND (power), 6 NC, 7 GND (power), 8 IN

## WE-LQ_L
designator L?, comment <b>SMD RF Inductor WE-LQ</b><p> / - High Q at high frequences<br> / - Low DC-resistance<br> / - Miniature chip inductor wound on a special ferrite core<p> / -- Low power DC/DC-converters from Linear Technology, / National Semiconductor, Texas Instruments and / Fairchild Semiconductor ect.<br> / -- Test & measurement equipment<br> / -- EMI-Filtering<br> / -- RF-circuit
footprint WE-LQ_L
pins: 1, 2

## WE-LQ_M
designator L?, comment <b>SMD RF Inductor WE-LQ</b><p> / - High Q at high frequences<br> / - Low DC-resistance<br> / - Miniature chip inductor wound on a special ferrite core<p> / -- Low power DC/DC-converters from Linear Technology, / National Semiconductor, Texas Instruments and / Fairchild Semiconductor ect.<br> / -- Test & measurement equipment<br> / -- EMI-Filtering<br> / -- RF-circuit
footprint WE-LQ_M
pins: 1, 2

## WE-MCA_2PIN_7488105XX/7488940245
designator ANT?, comment <b>Multilayer Chip Antenna WE-MCA</b><br><br> / - SMD Multilayer Chip Antenna<br> / - Extremely low profile<br> / - Very light component<br> / - Operating temperature: -40°C to +85°C<br> / - Power capacity: 3 W max.<br> / - Omni-directional<br><br> / -- For RF application in the area of 2,4 GHz<br> / -- WLAN<br> / -- Home RF (868 MHz)<br> / -- Bluetooth applications<br> / -- IEEE 802.11a/b<br> / -- GPS<br> / -- GSM<br> / -- WIMAX applications
footprint WE-MCA_7488105XX/7488940245
pins: 1 FP, 2 NC

## WE-MCA_2PIN_7488910043
designator ANT?, comment <b>Multilayer Chip Antenna WE-MCA</b><br><br> / - SMD Multilayer Chip Antenna<br> / - Extremely low profile<br> / - Very light component<br> / - Operating temperature: -40°C to +85°C<br> / - Power capacity: 3 W max.<br> / - Omni-directional<br><br> / -- For RF application in the area of 2,4 GHz<br> / -- WLAN<br> / -- Home RF (868 MHz)<br> / -- Bluetooth applications<br> / -- IEEE 802.11a/b<br> / -- GPS<br> / -- GSM<br> / -- WIMAX applications
footprint WE-MCA_7488910043
pins: 1 FP, 2 NC

## WE-MCA_2PIN_7488910157
designator ANT?, comment <b>Multilayer Chip Antenna WE-MCA</b><br><br> / - SMD Multilayer Chip Antenna<br> / - Extremely low profile<br> / - Very light component<br> / - Operating temperature: -40°C to +85°C<br> / - Power capacity: 3 W max.<br> / - Omni-directional<br><br> / -- For RF application in the area of 2,4 GHz<br> / -- WLAN<br> / -- Home RF (868 MHz)<br> / -- Bluetooth applications<br> / -- IEEE 802.11a/b<br> / -- GPS<br> / -- GSM<br> / -- WIMAX applications
footprint WE-MCA_7488910157
pins: 1 FP, 2 NC

## WE-MCA_2PIN_7488910245
designator ANT?, comment <b>Multilayer Chip Antenna WE-MCA</b><br><br> / - SMD Multilayer Chip Antenna<br> / - Extremely low profile<br> / - Very light component<br> / - Operating temperature: -40°C to +85°C<br> / - Power capacity: 3 W max.<br> / - Omni-directional<br><br> / -- For RF application in the area of 2,4 GHz<br> / -- WLAN<br> / -- Home RF (868 MHz)<br> / -- Bluetooth applications<br> / -- IEEE 802.11a/b<br> / -- GPS<br> / -- GSM<br> / -- WIMAX applications
footprint WE-MCA_7488910245
pins: 1 NC, 2 FP

## WE-MCA_2PIN_7488930245
designator ANT?, comment <b>Multilayer Chip Antenna WE-MCA</b><br><br> / - SMD Multilayer Chip Antenna<br> / - Extremely low profile<br> / - Very light component<br> / - Operating temperature: -40°C to +85°C<br> / - Power capacity: 3 W max.<br> / - Omni-directional<br><br> / -- For RF application in the area of 2,4 GHz<br> / -- WLAN<br> / -- Home RF (868 MHz)<br> / -- Bluetooth applications<br> / -- IEEE 802.11a/b<br> / -- GPS<br> / -- GSM<br> / -- WIMAX applications
footprint WE-MCA_7488930245
pins: 1 FP, 2 NC

## WE-MCA_7488910092
designator ANT?, comment <b>Multilayer Chip Antenna WE-MCA</b><br><br> / - SMD Multilayer Chip Antenna<br> / - Extremely low profile<br> / - Very light component<br> / - Operating temperature: -40°C to +85°C<br> / - Power capacity: 3 W max.<br> / - Omni-directional<br><br> / -- For RF application in the area of 2,4 GHz<br> / -- WLAN<br> / -- Home RF (868 MHz)<br> / -- Bluetooth applications<br> / -- IEEE 802.11a/b<br> / -- GPS<br> / -- GSM<br> / -- WIMAX applications
footprint WE-MCA_7488910092
pins: 1 NC, 2 FD, 3 NC, 4 NC, 5 NC, 6 NC, 7 NC, 8 NC

## WE-MCA_7488910235
designator ANT?, comment <b>Multilayer Chip Antenna WE-MCA</b><br><br> / - SMD Multilayer Chip Antenna<br> / - Extremely low profile<br> / - Very light component<br> / - Operating temperature: -40°C to +85°C<br> / - Power capacity: 3 W max.<br> / - Omni-directional<br><br> / -- For RF application in the area of 2,4 GHz<br> / -- WLAN<br> / -- Home RF (868 MHz)<br> / -- Bluetooth applications<br> / -- IEEE 802.11a/b<br> / -- GPS<br> / -- GSM<br> / -- WIMAX applications
footprint WE-MCA_7488910235
pins: 1 GND (power), 2 FD, 3 GND (power), 4 NC, 5 NC, 6 NC, 7 NC, 8 NC

## WE-MCA_7488912455
designator ANT?, comment <b>Multilayer Chip Antenna WE-MCA</b><br><br> / - SMD Multilayer Chip Antenna<br> / - Extremely low profile<br> / - Very light component<br> / - Operating temperature: -40°C to +85°C<br> / - Power capacity: 3 W max.<br> / - Omni-directional<br><br> / -- For RF application in the area of 2,4 GHz<br> / -- WLAN<br> / -- Home RF (868 MHz)<br> / -- Bluetooth applications<br> / -- IEEE 802.11a/b<br> / -- GPS<br> / -- GSM<br> / -- WIMAX applications
footprint WE-MCA_7488912455
pins: 1 NC, 2 NC, 3 FD_LB, 4 FD_HB

## WE-MCA_7488920245
designator ANT?, comment <b>Multilayer Chip Antenna WE-MCA</b><br><br> / - SMD Multilayer Chip Antenna<br> / - Extremely low profile<br> / - Very light component<br> / - Operating temperature: -40°C to +85°C<br> / - Power capacity: 3 W max.<br> / - Omni-directional<br><br> / -- For RF application in the area of 2,4 GHz<br> / -- WLAN<br> / -- Home RF (868 MHz)<br> / -- Bluetooth applications<br> / -- IEEE 802.11a/b<br> / -- GPS<br> / -- GSM<br> / -- WIMAX applications
footprint WE-MCA_7488920245
pins: 1 FD, 2 GND (power), 3 GND (power), 4 NC, 5 NC, 6 NC

## WE-MI_0603
designator L?, comment <b>SMD Multilayer Inductor WE-MI</b><p> / - Excellent solderability and high heat resistance<br> / - Smallest inductor possible for less space needed on the printed circuit board and therefore perfect suitable for high density mounting<br> / - No cross coupling of closed magnetic circuits<p> / -- Filter switches<br> / -- Oscillators<br> / -- Adjustment networks<br> / -- Discretely built T- or Pi-Filter<br> / -- Used as inductive element in filters and resonant circuits of higher quality with requirement of low coupling by external signals
footprint 0603
pins: 1, 2

## WE-MI_0805
designator L?, comment <b>SMD Multilayer Inductor WE-MI</b><p> / - Excellent solderability and high heat resistance<br> / - Smallest inductor possible for less space needed on the printed circuit board and therefore perfect suitable for high density mounting<br> / - No cross coupling of closed magnetic circuits<p> / -- Filter switches<br> / -- Oscillators<br> / -- Adjustment networks<br> / -- Discretely built T- or Pi-Filter<br> / -- Used as inductive element in filters and resonant circuits of higher quality with requirement of low coupling by external signals
footprint 0805
pins: 1, 2

## WE-MI_1206
designator L?, comment <b>SMD Multilayer Inductor WE-MI</b><p> / - Excellent solderability and high heat resistance<br> / - Smallest inductor possible for less space needed on the printed circuit board and therefore perfect suitable for high density mounting<br> / - No cross coupling of closed magnetic circuits<p> / -- Filter switches<br> / -- Oscillators<br> / -- Adjustment networks<br> / -- Discretely built T- or Pi-Filter<br> / -- Used as inductive element in filters and resonant circuits of higher quality with requirement of low coupling by external signals
footprint 1206
pins: 1, 2

## WE-MK_0201
designator L?, comment <b>SMD Multilayer Ceramic Inductors WE-MK</b><br><br> / - Windings printed on ceramic substrate<br> / - Extremely high SRF > 15 GHz<br> / - Inductance is stable over temperature<br><br> / -- High frequency circuits<br> / -- Bluetooth<br> / -- Wireless LAN<br> / -- Filter circuits<br>
footprint 0201
pins: 1, 2

## WE-MK_0402
designator L?, comment <b>SMD Multilayer Ceramic Inductors WE-MK</b><br><br> / - Windings printed on ceramic substrate<br> / - Extremely high SRF > 15 GHz<br> / - Inductance is stable over temperature<br><br> / -- High frequency circuits<br> / -- Bluetooth<br> / -- Wireless LAN<br> / -- Filter circuits<br>
footprint 0402
pins: 1, 2

## WE-MK_0603
designator L?, comment <b>SMD Multilayer Ceramic Inductors WE-MK</b><br><br> / - Windings printed on ceramic substrate<br> / - Extremely high SRF > 15 GHz<br> / - Inductance is stable over temperature<br><br> / -- High frequency circuits<br> / -- Bluetooth<br> / -- Wireless LAN<br> / -- Filter circuits<br>
footprint 0603
pins: 1, 2

## WE-MK_0805
designator L?, comment <b>SMD Multilayer Ceramic Inductors WE-MK</b><br><br> / - Windings printed on ceramic substrate<br> / - Extremely high SRF > 15 GHz<br> / - Inductance is stable over temperature<br><br> / -- High frequency circuits<br> / -- Bluetooth<br> / -- Wireless LAN<br> / -- Filter circuits<br>
footprint 0805
pins: 1, 2